# Altium schematic symbol library comp_lib_schem.SchLib: 292 symbols (part 3 of 4)
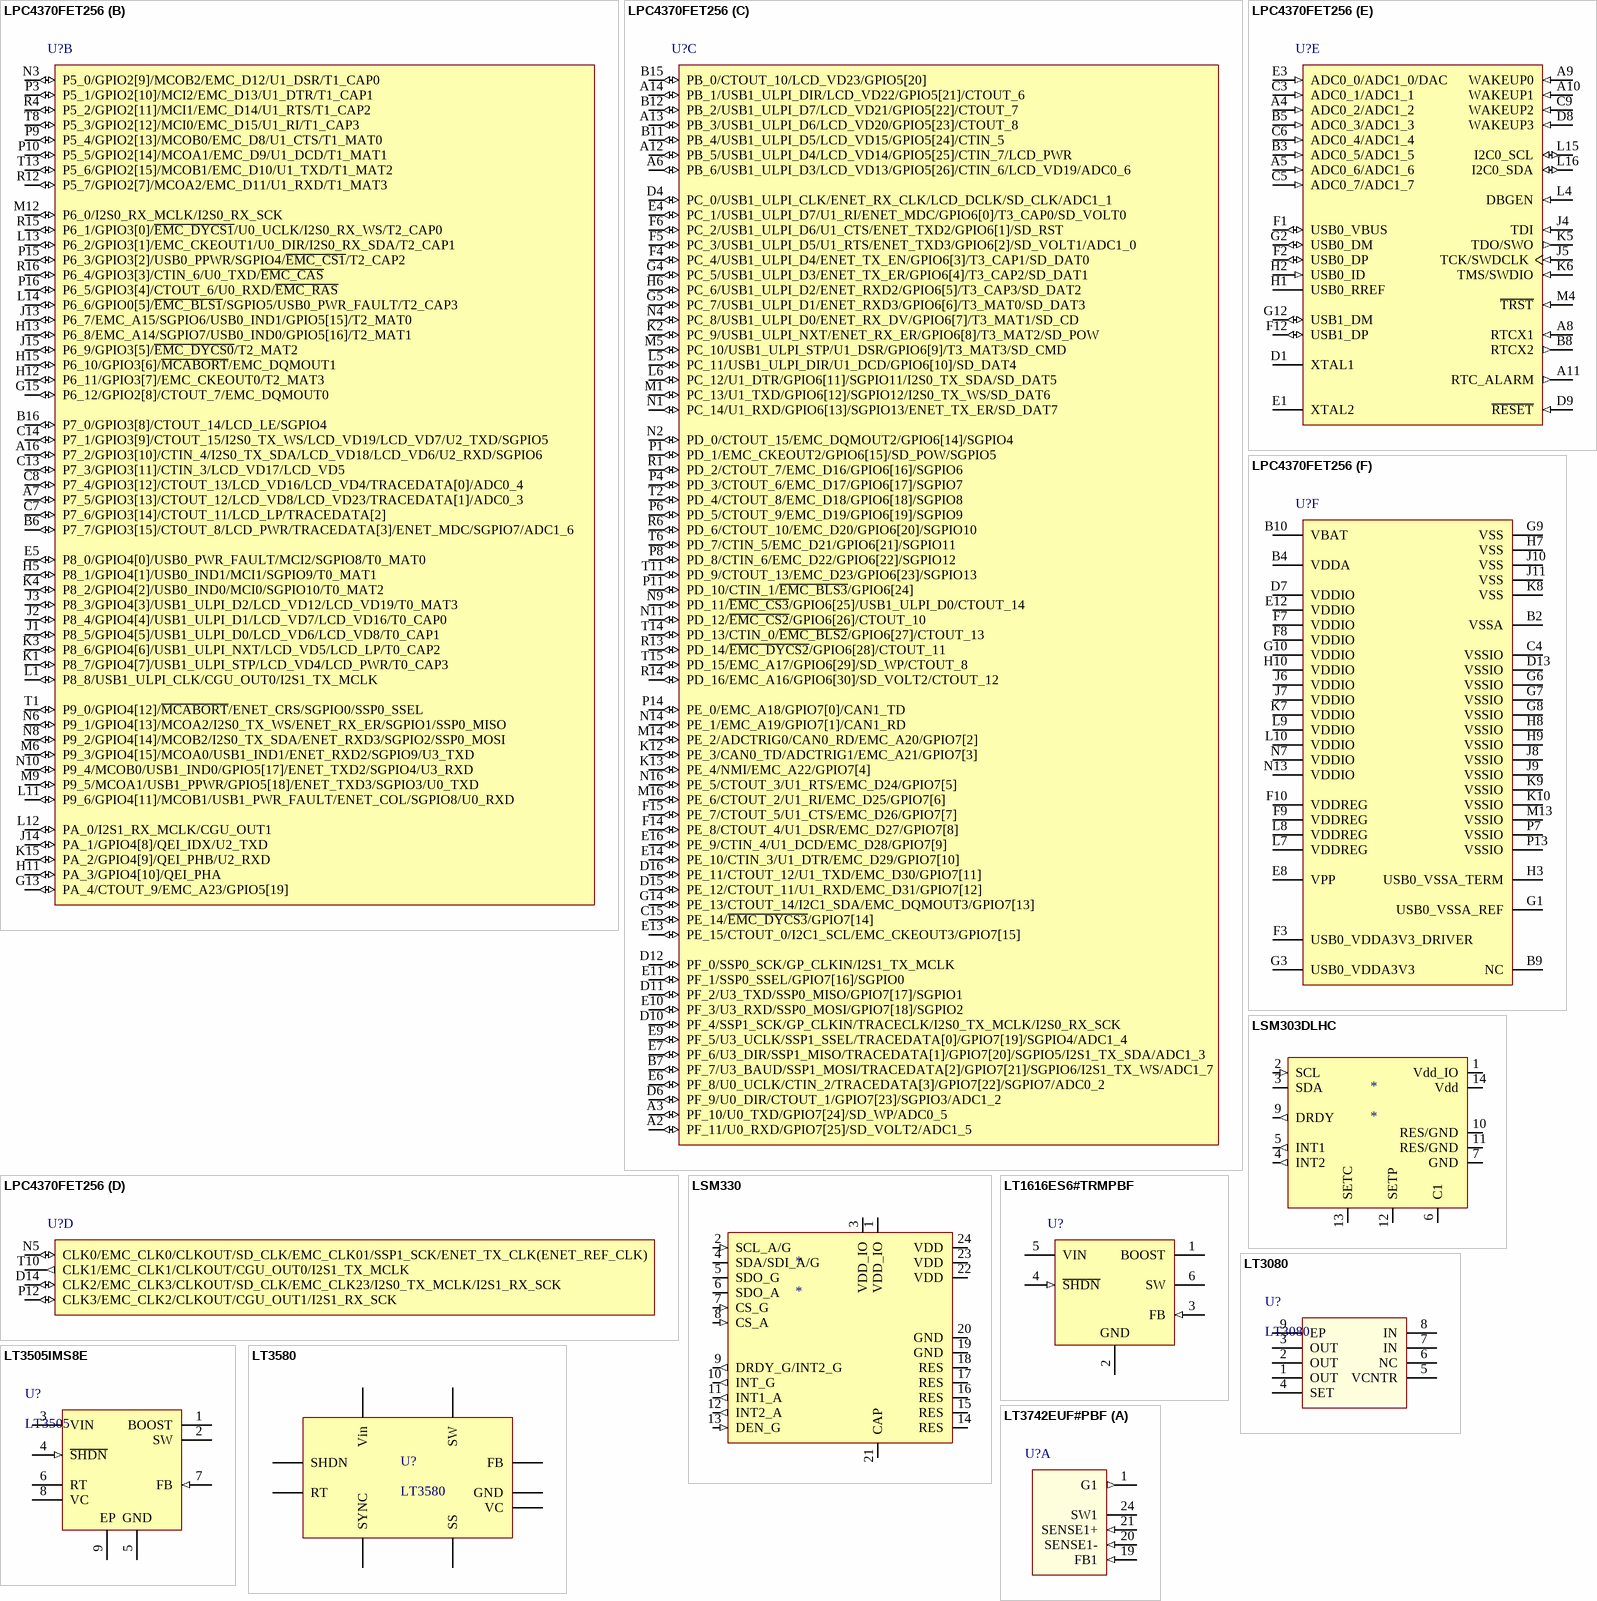
[diagram p23: symbols LPC4370FET256 to LT3742EUF#PBF]

## LT1616ES6#TRMPBF
designator U?
600 mA, 1.4 MHz Step-Down Switching Regulator, 6-pin SOT23 (S6-6), -40 to 85 degC, Pb-Free, Mini Tape and Reel; Manufacturer: Linear Technology; PartNumber: LT1616ES6#TRMPBF; Number of Outputs: 1; PackageVersion: Aug-07; PackageReference: S6-6; PackageDescription: 6-Pin Plastic SOT-23, Body 1.625 x 2.9 mm, Pitch 0.95 mm; Packing: Mini Tape and Reel; RoHS: TRUE; Mounting Technology: Surface Mount; ComponentLink1Description: Manufacturer URL; ComponentLink1URL: http://www.linear.com/; ComponentLink2Description: Datasheet; ComponentLink2URL: http://cds.linear.com/docs/en/datasheet/lt1616fs.pdf; ComponentLink3Description: Package Specification; ComponentLink3URL: http://cds.linear.com/docs/en/datasheet/175435f.pdf
footprint SOT23-6 (SOT23, 6-Leads, Body 3x1.75mm, Pitch 0.95mm, IPC Medium Density)
pins: 1 BOOST "The BOOST pin is used to provide a drive voltage, higher than the input voltage, to the internal bipolar NPN power switch.", 2 GND (power), 3 FB (in), 4 ~{SHDN} (in), 5 VIN (power), 6 SW (power) "The SW pin is the output of the internal power switch. Connect this pin to the inductor, catch diode and boost capacitor."

## LT3080
designator U?
footprint LT-MS8E-8-2060X1830TP_N (MSOP8, PMSOP8 Pitch 0.65mm, Thermal Pad)
pins: 1 OUT, 2 OUT, 3 OUT, 4 SET, 5 VCNTR, 6 NC, 7 IN, 8 IN, 9 EP

## LT3505IMS8E
designator U?, comment LT3505
footprint LT-MS8E-8-2060X1830TP_N (MSOP8, PMSOP8 Pitch 0.65mm, Thermal Pad)
pins: 1 BOOST "The BOOST pin is used to provide a drive voltage, higher than the input voltage, to the internal bipolar NPN power switch.", 2 SW (power) "The SW pin is the output of the internal power switch. Connect this pin to the inductor, catch diode and boost capacitor.", 3 VIN (power) "The VIN pin supplies current to the LT3505’s internal regulator and to the internal power switch. This pin must be locally bypassed.", 4 ~{SHDN} (in) "The S\H\D\N\ pin is used to put the LT3505 in shutdown mode. Tie to ground to shut down the LT3505. Tie to 2.3V or more for normal operation. If the shutdown feature is not used, tie this pin to the VIN pin. S\H\D\N\ also (See Datasheet)", 5 GND (power) "Tie the GND pin to a local ground plane below the LT3505 and the circuit components. Return the feedback divider to this pin.", 6 RT "The RT pin is used to program the switching frequency of the LT3505 by connecting a resistor from this pin to ground. The Applications Information section of the data sheet includes a table to determine the resistance value (See Datasheet)", 7 FB (in) "The LT3505 regulates its feedback pin to 780mV. Connect the feedback resistor divider tap to this pin.", 8 VC "The VC pin is used to compensate the LT3505 control loop by tying an external RC network from this pin to ground.", 9 EP (power) "The Exposed Pad must be soldered to the PCB and electrically connected to ground. Use a large ground plane and thermal vias to optimize thermal performance."

## LT3580
designator U?
Boost/Inverting DC/DC   Converter with 2A Switch,   Soft-Start, and Synchronization
footprint LT-MS8E-8-2060X1830TP_N (MSOP8, PMSOP8 Pitch 0.65mm, Thermal Pad)
pins: 1 FB, 2 VC, 3 Vin, 4 SW, 5 SHDN, 6 RT, 7 SS, 8 SYNC, 9 GND

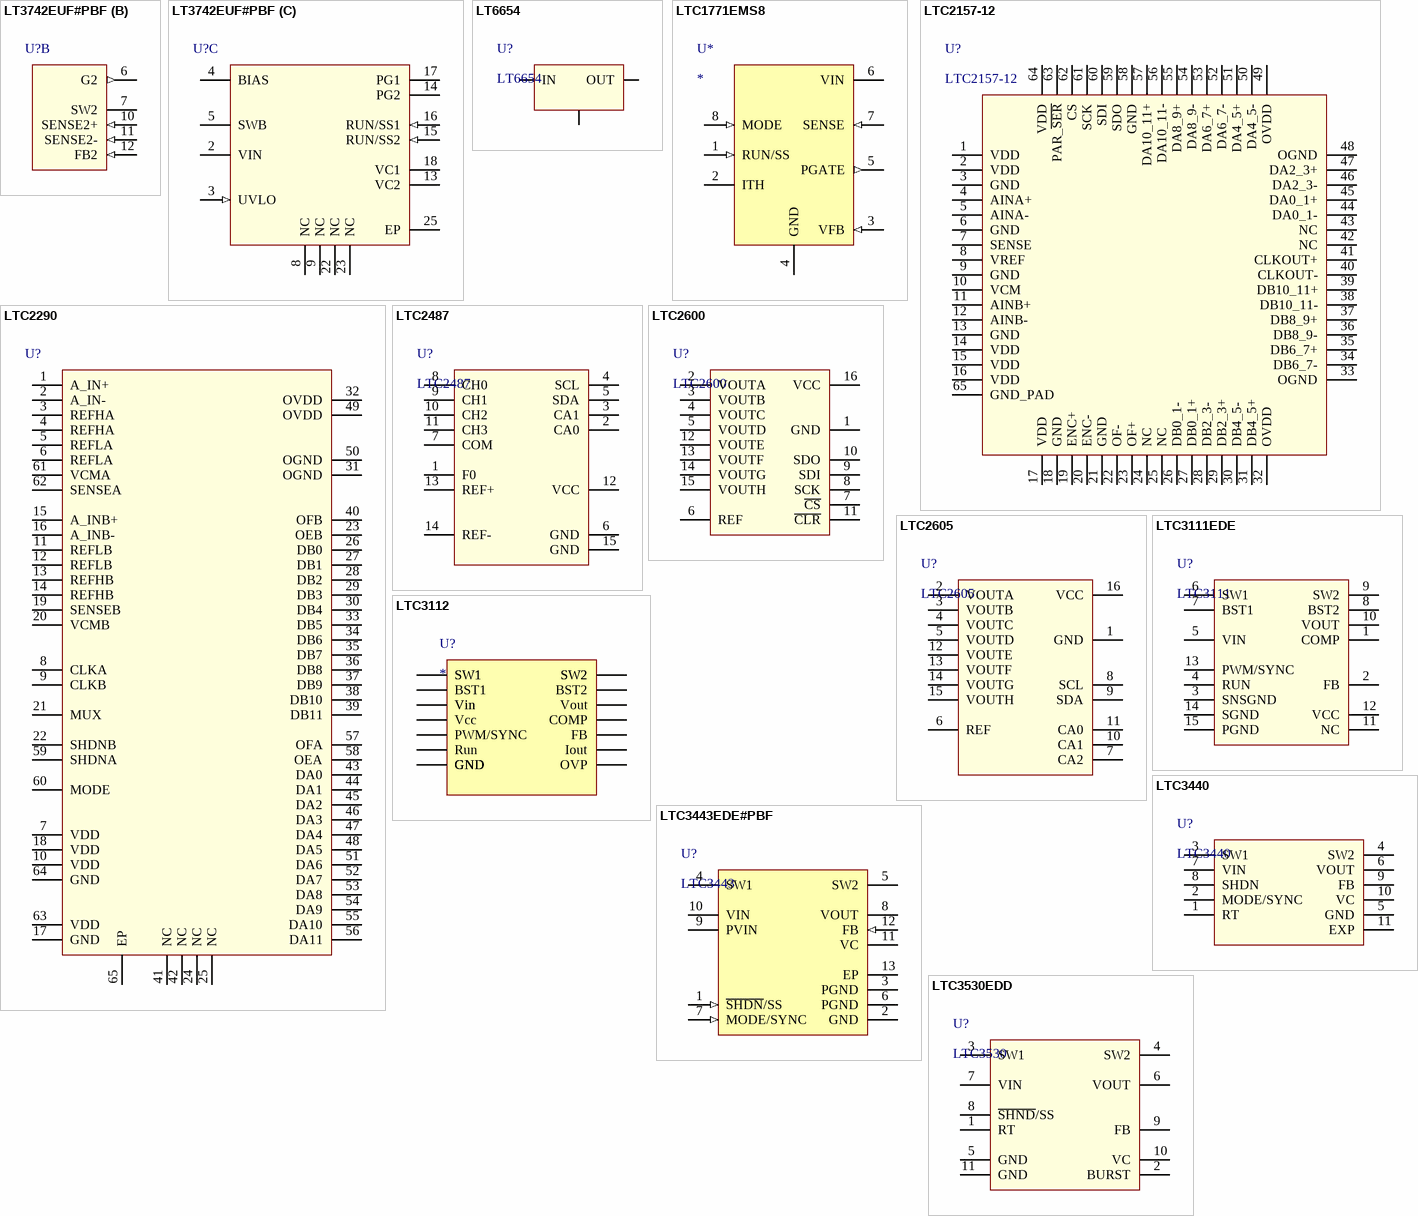
[diagram p14: symbols LT3742EUF#PBF to LTC3530EDD]

## LT3742EUF#PBF
designator U?
Dual, 2-Phase Step-Down Switching Controller, 24-pin QFN (UF24), -40 to 125 degC, Pb-Free; Manufacturer: Linear Technology; PartNumber: LT3742EUF#PBF; Number of Outputs: 2; DatasheetVersion: Rev. A; PackageVersion: Rev. B, 02/2012; PackageReference: UF24; PackageDescription: 24-Pin Plastic QFN, Body 4 x 4 mm, Pitch 0.5 mm; RoHS: TRUE; Mounting Technology: Surface Mount; Code_JEDEC: MO-220; ComponentLink1Description: Manufacturer URL; ComponentLink1URL: http://www.linear.com/; ComponentLink2Description: Datasheet; ComponentLink2URL: http://cds.linear.com/docs/en/datasheet/3742fa.pdf; ComponentLink3Description: Package Specification; ComponentLink3URL: http://cds.linear.com/docs/en/packaging/%28UF24%29%20QFN%2005-08-1697%20Rev%20B.pdf
footprint LT-UF-24 (QFN, 24-Leads, Body 4.1x4.1mm, Pitch 0.5mm, Thermal Pad 2.45x2.45mm, IPC Medium Density)
part A pins: 1 G1 (out) "Gate Drives. These pins provide high current gate drive for the external N-channel MOSFETs. These pins are the outputs of floating drivers whose voltage swings between the BIAS and SW pins.", 19 FB1 (in) "Feedback Pins. The LT3742 regulates these pins to 800mV. Connect the feedback resistors to this pin to set the output voltage for each switching regulator.", 20 SENSE1- (in) "Negative Current Sense Inputs. These pins (along with the SENSE+ pins) are used to sense the inductor current for each switching regulator.", 21 SENSE1+ (in) "Positive Current Sense Inputs. These pins (along with the SENSE- pins) are used to sense the inductor current for each switching regulator.", 24 SW1 "Switch Nodes. These pins connect to the source of the external N-channel MOSFETs and to the external inductors and diodes."
part B pins: 6 G2 (out) "Gate Drives. These pins provide high current gate drive for the external N-channel MOSFETs. These pins are the outputs of floating drivers whose voltage swings between the BIAS and SW pins.", 7 SW2 "Switch Nodes. These pins connect to the source of the external N-channel MOSFETs and to the external inductors and diodes.", 10 SENSE2+ (in) "Positive Current Sense Inputs. These pins (along with the SENSE- pins) are used to sense the inductor current for each switching regulator.", 11 SENSE2- (in) "Negative Current Sense Inputs. These pins (along with the SENSE+ pins) are used to sense the inductor current for each switching regulator.", 12 FB2 (in) "Feedback Pins. The LT3742 regulates these pins to 800mV. Connect the feedback resistors to this pin to set the output voltage for each switching regulator."
part C pins: 2 VIN (power) "Input Voltage. This pin supplies current to the internal circuitry of the LT3742. This pin must be locally bypassed with a capacitor.", 3 UVLO (in) "Undervoltage Lockout. Do not leave this pin open ; connect it to VIN if not used. A resistor divider connected to VIN is tied to this pin to program the minimum input voltage at which the LT3742 will operate. When this pin (See Datasheet)", 4 BIAS (power) "Bias for Gate Drive. This pin provides a bias voltage higher than the input voltage to drive the external N-channel MOSFETs. The voltage on this pin is regulated to VIN + 7V.", 5 SWB "Bias Regulator Switch. This is the collector of an internal NPN switch used to generate the bias voltage to provide gate drive for the external N-channel MOSFETs.", 8 NC, 9 NC, 13 VC2 "Control Voltage and Compensation Pins for Internal Error Amplifiers. Connect a series RC from these pins to ground to compensate each switching regulator loop.", 14 PG2 (oc) "Power Good. These pins are open-collector outputs of internal comparators. PG remains low until the FB pin is within 90% of the final regulation voltage. As well as indicating output regulation, the PG pins can be used to (See Datasheet)", 15 RUN/SS2 (in) "Run/Soft-Start Pins. These pins are used to shut down each controller. They also provide a soft-start function with the addition of an external capacitor. To shut down any regulator, pull the RUN/SS pin to ground with an (See Datasheet)", 16 RUN/SS1 (in) "Run/Soft-Start Pins. These pins are used to shut down each controller. They also provide a soft-start function with the addition of an external capacitor. To shut down any regulator, pull the RUN/SS pin to ground with an (See Datasheet)", 17 PG1 (oc) "Power Good. These pins are open-collector outputs of internal comparators. PG remains low until the FB pin is within 90% of the final regulation voltage. As well as indicating output regulation, the PG pins can be used to (See Datasheet)", 18 VC1 "Control Voltage and Compensation Pins for Internal Error Amplifiers. Connect a series RC from these pins to ground to compensate each switching regulator loop.", 22 NC, 23 NC, 25 EP (power) "Ground. The Exposed Pad of the package provides both electrical contact to ground and good thermal contact to the printed circuit board. The Exposed Pad must be soldered to the circuit board to ensure proper operation."

## LT6654
designator U?
Reference Voltage
footprint SOT23-6 (SOT23, 6-Leads, Body 3x1.75mm, Pitch 0.95mm, IPC Medium Density)
pins: 2 GND, 4 IN, 6 OUT

## LTC1771EMS8
designator U*
footprint LT-MS8 (SOP, 8-Leads, Body 3.1x3.1mm, Pitch 0.65mm, IPC Medium Density)
pins: 1 RUN/SS (in) "The voltage level on this pin controls shutdown/run mode (ground = shutdown, open/high = run). Connecting an external capacitor to this pin provides soft-start.", 2 ITH "Error Amplifier Compensation Point. The current comparator threshold increases with this control voltage. Nominal voltage range for this pin is 0V to 3V.", 3 VFB (in) "Feedback of Output Voltage for Comparison to Internal 1.23V Reference. An external resistive divider across the output is returned to this pin.", 4 GND (power) "Ground Pin.", 5 PGATE (out) "High Current Gate Driver for External P-Channel MOSFET Switch. Voltage swing is from ground to VIN.", 6 VIN (power) "Main Input Voltage Supply Pin.", 7 SENSE (in) "Current Sense Input for Monitoring Switch Current. Maximum switch current and Burst Mode threshold is programmed with an external resistor between SENSE and VIN.", 8 MODE (in) "Burst Mode Enable/Disable Pin. Connecting this pin to VIN (or above 2V) enables Burst Mode operation, while connecting this pin to ground disables Burst Mode operation. Do not leave floating."

## LTC2157-12
designator U?
footprint LT-QFN64
pins: 1 VDD, 2 VDD, 3 GND, 4 AINA+, 5 AINA-, 6 GND, 7 SENSE, 8 VREF, 9 GND, 10 VCM, 11 AINB+, 12 AINB-, 13 GND, 14 VDD, 15 VDD, 16 VDD, 17 VDD, 18 GND, 19 ENC+, 20 ENC-, 21 GND, 22 OF-, 23 OF+, 24 NC, 25 NC, 26 DB0_1-, 27 DB0_1+, 28 DB2_3-, 29 DB2_3+, 30 DB4_5-, 31 DB4_5+, 32 OVDD, 33 OGND, 34 DB6_7-, 35 DB6_7+, 36 DB8_9-, 37 DB8_9+, 38 DB10_11-, 39 DB10_11+, 40 CLKOUT-, 41 CLKOUT+, 42 NC, 43 NC, 44 DA0_1-, 45 DA0_1+, 46 DA2_3-, 47 DA2_3+, 48 OGND, 49 OVDD, 50 DA4_5-, 51 DA4_5+, 52 DA6_7-, 53 DA6_7+, 54 DA8_9-, 55 DA8_9+, 56 DA10_11-, 57 DA10_11+, 58 GND, 59 SDO, 60 SDI, 61 SCK, 62 CS, 63 PAR_~{SER}, 64 VDD, 65 GND_PAD

## LTC2290
designator U?  (value not drawn)
10 MSPS Dual 12-bit ADC
footprint LT-QFN64
pins: 1 A_IN+, 2 A_IN-, 3 REFHA, 4 REFHA, 5 REFLA, 6 REFLA, 7 VDD, 8 CLKA, 9 CLKB, 10 VDD, 11 REFLB, 12 REFLB, 13 REFHB, 14 REFHB, 15 A_INB+, 16 A_INB-, 17 GND, 18 VDD, 19 SENSEB, 20 VCMB, 21 MUX, 22 SHDNB, 23 OEB, 24 NC, 25 NC, 26 DB0, 27 DB1, 28 DB2, 29 DB3, 30 DB4, 31 OGND, 32 OVDD, 33 DB5, 34 DB6, 35 DB7, 36 DB8, 37 DB9, 38 DB10, 39 DB11, 40 OFB, 41 NC, 42 NC, 43 DA0, 44 DA1, 45 DA2, 46 DA3, 47 DA4, 48 DA5, 49 OVDD, 50 OGND, 51 DA6, 52 DA7, 53 DA8, 54 DA9, 55 DA10, 56 DA11, 57 OFA, 58 OEA, 59 SHDNA, 60 MODE, 61 VCMA, 62 SENSEA, 63 VDD, 64 GND, 65 EP

## LTC2487
designator U?
Quad 16-bit ADC
footprint DE_DFN14 (LT DF)
pins: 1 F0, 2 CA0, 3 CA1, 4 SCL, 5 SDA, 6 GND, 7 COM, 8 CH0, 9 CH1, 10 CH2, 11 CH3, 12 VCC, 13 REF+, 14 REF-, 15 GND

## LTC2600
designator U?
Octal 16-bit DAC
footprint GN_SSOP16 (LT GN SSPOP16)
pins: 1 GND, 2 VOUTA, 3 VOUTB, 4 VOUTC, 5 VOUTD, 6 REF, 7 ~{CS}, 8 SCK, 9 SDI, 10 SDO, 11 ~{CLR}, 12 VOUTE, 13 VOUTF, 14 VOUTG, 15 VOUTH, 16 VCC

## LTC2605
designator U?
footprint GN_SSOP16 (LT GN SSPOP16)
pins: 1 GND, 2 VOUTA, 3 VOUTB, 4 VOUTC, 5 VOUTD, 6 REF, 7 CA2, 8 SCL, 9 SDA, 10 CA1, 11 CA0, 12 VOUTE, 13 VOUTF, 14 VOUTG, 15 VOUTH, 16 VCC

## LTC3111EDE
designator U?, comment LTC3111
15V, 1.5A Synchronous  Buck-Boost DC/DC  Converter
footprint LT-DFN14
pins: 1 COMP, 2 FB, 3 SNSGND, 4 RUN, 5 VIN, 6 SW1, 7 BST1, 8 BST2, 9 SW2, 10 VOUT, 11 NC, 12 VCC, 13 PWM/SYNC, 14 SGND, 15 PGND

## LTC3112
designator U?
15V, 2.5A Synchronous  Buck-Boost DC/DC   Converter
footprint TSSOP20-exposed_pad (20-LEAD PLASTIC TSSOP with exposed GND 21 pad)
pins: 1 GND, 2 COMP, 3 FB, 4 OVP, 5 Vin, 6 Vin, 7 Run, 8 Iout, 9 Vout, 10 GND, 11 GND, 12 SW2, 13 SW2, 14 BST2, 15 SW1, 16 SW1, 17 BST1, 18 Vcc, 19 PWM/SYNC, 20 GND, 21 GND

## LTC3440
designator U?
footprint DFN10 (10-Lead Plastic DFN (3mm ×3mm))
footprint MSOP10 (MS Package  10-Lead Plastic MSOP); pin to pad 11>10
pins: 1 RT, 2 MODE/SYNC, 3 SW1, 4 SW2, 5 GND, 6 VOUT, 7 VIN, 8 SHDN, 9 FB, 10 VC, 11 EXP

## LTC3443EDE#PBF
designator U?, comment LTC3443
footprint LT-DE-UE-12 (SON, 12-Leads, Body 4x3mm, Pitch 0.5mm, Thermal Pad 3.3x1.7mm)
pins: 1 ~{SHDN}/SS (in) "Combined Soft-Start and Shutdown. Applied voltage < 0.4V shuts down the IC. Tie to >1.4V to enable the IC and >2.4V to ensure the error amp is not clamped from soft-start. An RC from the shutdown command signal to this pin (See Datasheet)", 2 GND (power) "Signal Ground for the IC.", 3 PGND (power) "Power Ground for the Internal NMOS Power Switches", 4 SW1 "Switch pin where the internal switches A and B are connected. Connect inductor from SW1 to SW2. An optional Schottky diode can be connected from this SW1 to ground. Minimize trace length to keep EMI down.", 5 SW2 "Switch pin where the internal switches C and D are connected. An optional Schottky diode can be connected from SW2 to VOUT (it is required where VOUT > 4.3V). Minimize trace length to keep EMI down.", 6 PGND (power) "Power Ground for the Internal NMOS Power Switches", 7 MODE/SYNC (in) "Burst Mode Select and Oscillator Synchronization.", 8 VOUT (power) "Output of the Synchronous Rectifier. A filter capacitor is placed from VOUT to GND. A ceramic bypass capacitor is recommended as close to the VOUT and GND pins as possible.", 9 PVIN (power) "Power VIN Supply Pin. A 10uF ceramic capacitor is recommended as close to the PVIN and PGND pins as possible", 10 VIN (power) "Input Supply Pin. Internal VCC for the IC.", 11 VC "Error Amp Output. A frequency compensation network is connected from this pin to the FB pin to compensate the loop. See the section “Compensating the Feedback Loop?for guidelines.", 12 FB (in) "Feedback Pin. Connect resistor divider tap here. The output voltage can be adjusted from 2.4V to 5.25V. The feedback reference voltage is typically 1.22V.", 13 EP (power) "Power Ground for the Internal NMOS Power Switches"

## LTC3530EDD
designator U?, comment LTC3530
Wide Input Voltage  Synchronous Buck-Boost  DC/DC Converter
footprint DFN10 (10-Lead Plastic DFN (3mm ×3mm))
pins: 1 RT, 2 BURST, 3 SW1, 4 SW2, 5 GND, 6 VOUT, 7 VIN, 8 ~{SHND}/SS, 9 FB, 10 VC, 11 GND

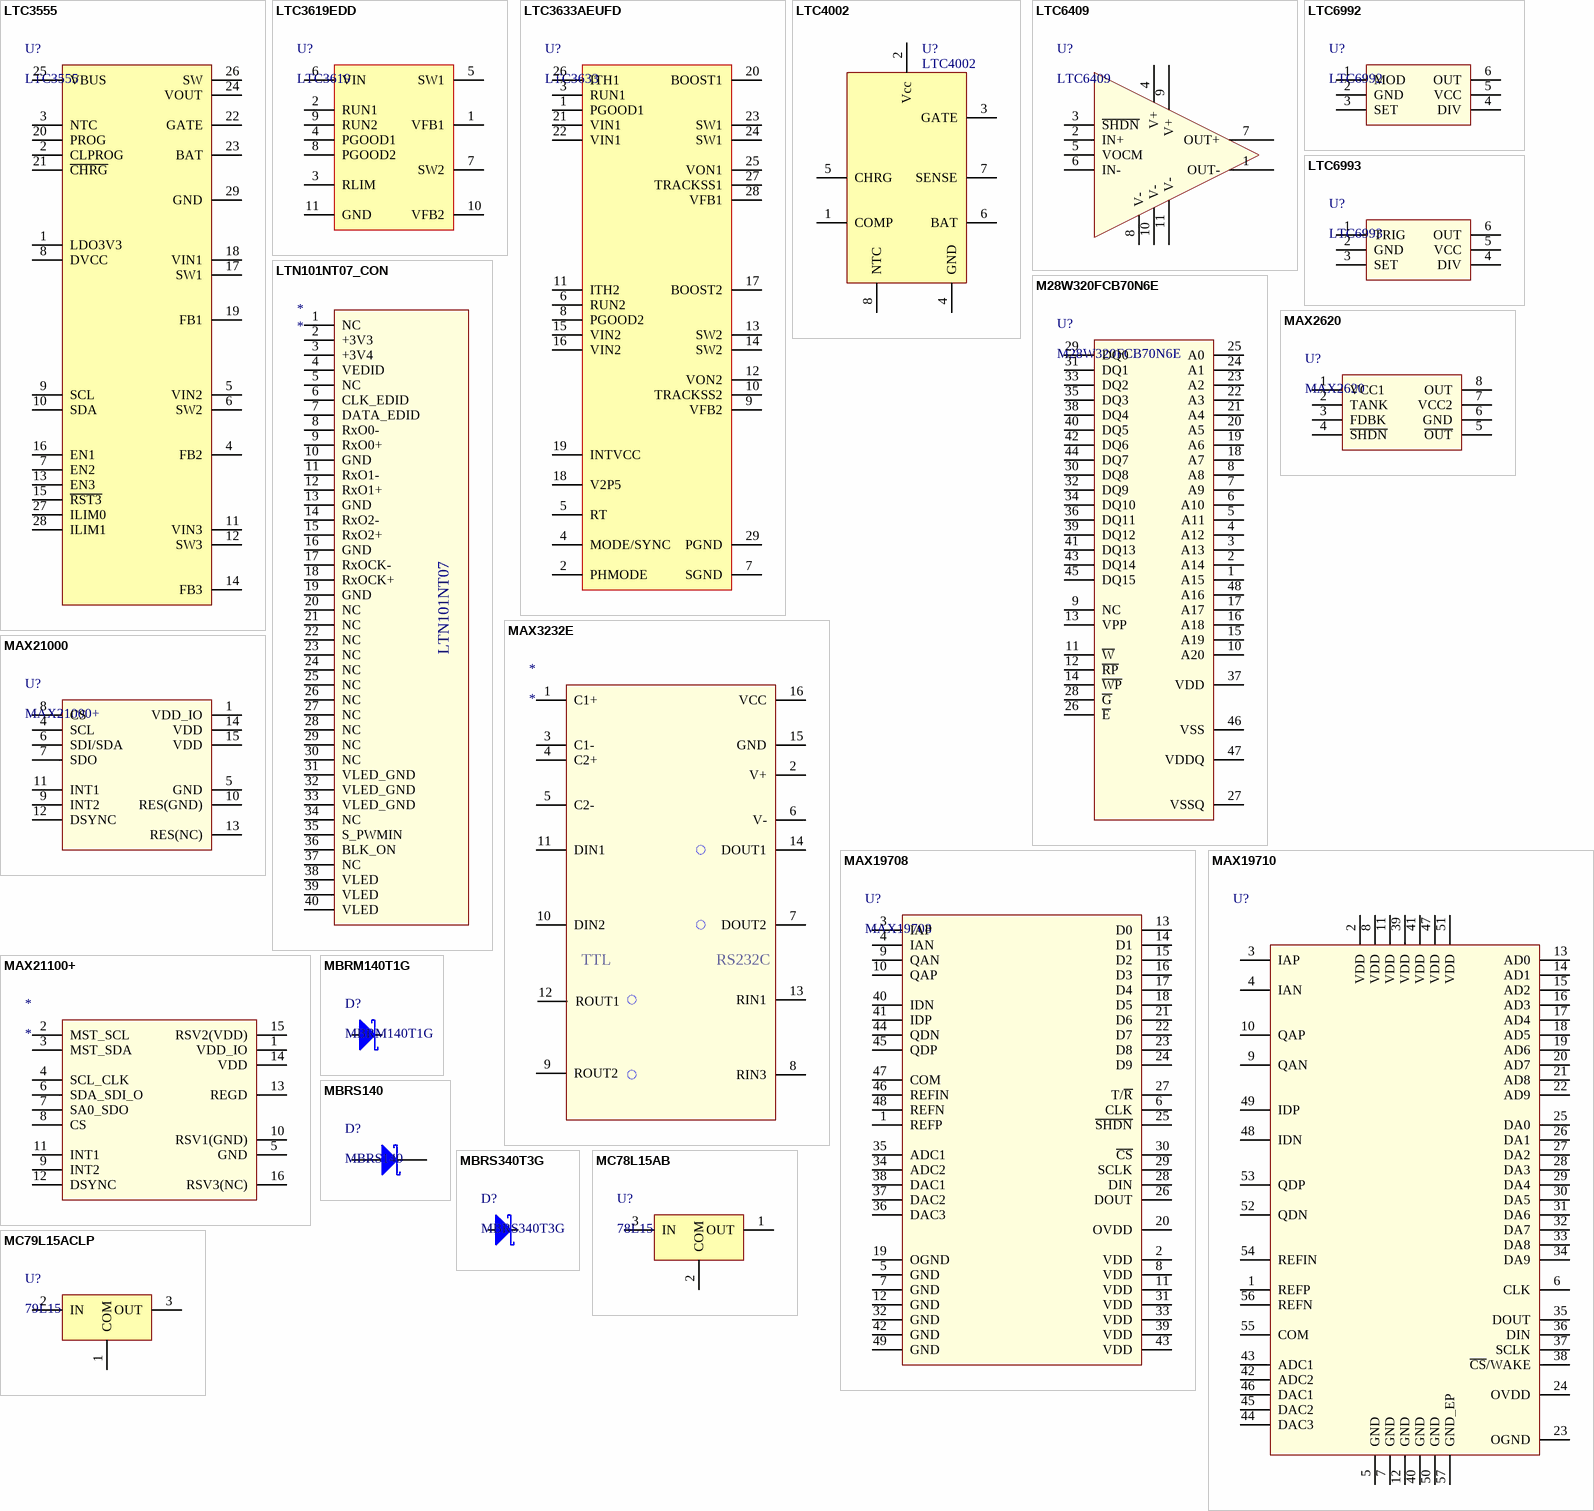
[diagram p15: symbols LTC3555 to MC79L15ACLP]

## LTC3555
designator U?
High Efficiency USB Power  Manager + Triple  Step-Down DC/DC
footprint QFN28_4x5 (Linear Technology UFD Package)
pins: 1 LDO3V3, 2 CLPROG, 3 NTC, 4 FB2, 5 VIN2, 6 SW2, 7 EN2, 8 DVCC, 9 SCL, 10 SDA, 11 VIN3, 12 SW3, 13 EN3, 14 FB3, 15 ~{RST3}, 16 EN1, 17 SW1, 18 VIN1, 19 FB1, 20 PROG, 21 ~{CHRG}, 22 GATE, 23 BAT, 24 VOUT, 25 VBUS, 26 SW, 27 ILIM0, 28 ILIM1, 29 GND

## LTC3619EDD
designator U?, comment LTC3619
400mA/800mA Synchronous  Step-Down DC/DC with  Average Input Current Limit
footprint DFN10 (10-Lead Plastic DFN (3mm ×3mm))
pins: 1 VFB1 (power), 2 RUN1 (power), 3 RLIM (power), 4 PGOOD1 (power), 5 SW1 (power), 6 VIN (power), 7 SW2 (power), 8 PGOOD2 (power), 9 RUN2 (power), 10 VFB2 (power), 11 GND (power)

## LTC3633AEUFD
designator U?, comment LTC3633
Dual Channel 3A, 15V  Monolithic Synchronous  Step-Down Regulator
footprint QFN28_4x5 (Linear Technology UFD Package)
pins: 1 PGOOD1 (power), 2 PHMODE (power), 3 RUN1 (power), 4 MODE/SYNC (power), 5 RT (power), 6 RUN2 (power), 7 SGND (power), 8 PGOOD2 (power), 9 VFB2 (power), 10 TRACKSS2 (power), 11 ITH2 (power), 12 VON2 (power), 13 SW2 (power), 14 SW2 (power), 15 VIN2 (power), 16 VIN2 (power), 17 BOOST2 (power), 18 V2P5 (power), 19 INTVCC (power), 20 BOOST1 (power), 21 VIN1 (power), 22 VIN1 (power), 23 SW1 (power), 24 SW1 (power), 25 VON1 (power), 26 ITH1 (power), 27 TRACKSS1 (power), 28 VFB1 (power), 29 PGND (power)

## LTC4002
designator U?
Standalone Li-Ion  Switch Mode Battery Charger
footprint SOIC8
pins: 1 COMP, 2 Vcc, 3 GATE, 4 GND, 5 CHRG, 6 BAT, 7 SENSE, 8 NTC

## LTC6409
designator U?
10GHz GBW, Differential Amplifier/ADC Driver
footprint UDB10 (10-Lead Plastic QFN (3mm ×2mm))
pins: 1 OUT-, 2 IN+, 3 ~{SHDN}, 4 V+, 5 VOCM, 6 IN-, 7 OUT+, 8 V-, 9 V+, 10 V-, 11 V-

## LTC6992
designator U?
Voltage-Controlled Pulse   Width Modulator
footprint SOT23-6 (SOT23, 6-Leads, Body 3x1.75mm, Pitch 0.95mm, IPC Medium Density)
pins: 1 MOD, 2 GND, 3 SET, 4 DIV, 5 VCC, 6 OUT

## LTC6993
designator U?
Monostable  Pulse Generator(One Shot)
footprint SOT23-6 (SOT23, 6-Leads, Body 3x1.75mm, Pitch 0.95mm, IPC Medium Density)
pins: 1 TRIG, 2 GND, 3 SET, 4 DIV, 5 VCC, 6 OUT

## LTN101NT07_CON
designator *
footprint 5-2069716-3 (TE Conectivity LCD IPEX cop. connector)
footprint T_HIROSE_DF13A-40DP-1.25V(55)
pins: 1 NC, 2 +3V3, 3 +3V4, 4 VEDID, 5 NC, 6 CLK_EDID, 7 DATA_EDID, 8 RxO0-, 9 RxO0+, 10 GND, 11 RxO1-, 12 RxO1+, 13 GND, 14 RxO2-, 15 RxO2+, 16 GND, 17 RxOCK-, 18 RxOCK+, 19 GND, 20 NC, 21 NC, 22 NC, 23 NC, 24 NC, 25 NC, 26 NC, 27 NC, 28 NC, 29 NC, 30 NC, 31 VLED_GND, 32 VLED_GND, 33 VLED_GND, 34 NC, 35 S_PWMIN, 36 BLK_ON, 37 NC, 38 VLED, 39 VLED, 40 VLED
text: LTN101NT07

## M28W320FCB70N6E
designator U?
2MB flash boot memory
footprint TSOP48_FLASH (Flash footprint)
pins: 1 A15, 2 A14, 3 A13, 4 A12, 5 A11, 6 A10, 7 A9, 8 A8, 9 NC, 10 A20, 11 ~{W}, 12 ~{RP}, 13 VPP, 14 ~{WP}, 15 A19, 16 A18, 17 A17, 18 A7, 19 A6, 20 A5, 21 A4, 22 A3, 23 A2, 24 A1, 25 A0, 26 ~{E}, 27 VSSQ, 28 ~{G}, 29 DQ0, 30 DQ8, 31 DQ1, 32 DQ9, 33 DQ2, 34 DQ10, 35 DQ3, 36 DQ11, 37 VDD, 38 DQ4, 39 DQ12, 40 DQ5, 41 DQ13, 42 DQ6, 43 DQ14, 44 DQ7, 45 DQ15, 46 VSS, 47 VDDQ, 48 A16

## MAX2620
designator U?
footprint uMAX-8L (Maxim Dallas uMAX / uSOP 8L)
pins: 1 VCC1, 2 TANK, 3 FDBK, 4 ~{SHDN}, 5 ~{OUT}, 6 GND, 7 VCC2, 8 OUT

## MAX3232E
designator *
footprint SOIC16_TI (SOIC, 16-Leads, Body 9,90x3,90mm, Pitch 1,27mm, IPC Medium Density)
pins: 1 C1+, 2 V+, 3 C1-, 4 C2+, 5 C2-, 6 V-, 7 DOUT2, 8 RIN3, 9 ROUT2, 10 DIN2, 11 DIN1, 12 ROUT1, 13 RIN1, 14 DOUT1, 15 GND, 16 VCC
text: TTL; RS232C

## MAX19708
designator U?
10-Bit, 11Msps, Ultra-Low-Power  Analog Front-End
footprint QFN48L (7x7 Maxim Dallas)
pins: 1 REFP, 2 VDD, 3 IAP, 4 IAN, 5 GND, 6 CLK, 7 GND, 8 VDD, 9 QAN, 10 QAP, 11 VDD, 12 GND, 13 D0, 14 D1, 15 D2, 16 D3, 17 D4, 18 D5, 19 OGND, 20 OVDD, 21 D6, 22 D7, 23 D8, 24 D9, 25 ~{SHDN}, 26 DOUT, 27 T/~{R}, 28 DIN, 29 SCLK, 30 ~{CS}, 31 VDD, 32 GND, 33 VDD, 34 ADC2, 35 ADC1, 36 DAC3, 37 DAC2, 38 DAC1, 39 VDD, 40 IDN, 41 IDP, 42 GND, 43 VDD, 44 QDN, 45 QDP, 46 REFIN, 47 COM, 48 REFN, 49 GND

## MAX19710
designator U?  (value not drawn)
10-Bit, 7.5Msps, Full-Duplex  Analog Front-End
footprint QFN56L
pins: 1 REFP, 2 VDD, 3 IAP, 4 IAN, 5 GND, 6 CLK, 7 GND, 8 VDD, 9 QAN, 10 QAP, 11 VDD, 12 GND, 13 AD0, 14 AD1, 15 AD2, 16 AD3, 17 AD4, 18 AD5, 19 AD6, 20 AD7, 21 AD8, 22 AD9, 23 OGND, 24 OVDD, 25 DA0, 26 DA1, 27 DA2, 28 DA3, 29 DA4, 30 DA5, 31 DA6, 32 DA7, 33 DA8, 34 DA9, 35 DOUT, 36 DIN, 37 SCLK, 38 ~{CS}/WAKE, 39 VDD, 40 GND, 41 VDD, 42 ADC2, 43 ADC1, 44 DAC3, 45 DAC2, 46 DAC1, 47 VDD, 48 IDN, 49 IDP, 50 GND, 51 VDD, 52 QDN, 53 QDP, 54 REFIN, 55 COM, 56 REFN, 57 GND_EP

## MAX21000
designator U?, comment MAX21000+
footprint LGA16_MD (Maxim Dallas MEMS)
pins: 1 VDD_IO, 4 SCL, 5 GND, 6 SDI/SDA, 7 SDO, 8 CS, 9 INT2, 10 RES(GND), 11 INT1, 12 DSYNC, 13 RES(NC), 14 VDD, 15 VDD

## MAX21100+
designator *
footprint LGA16_MD (Maxim Dallas MEMS)
pins: 1 VDD_IO, 2 MST_SCL, 3 MST_SDA, 4 SCL_CLK, 5 GND, 6 SDA_SDI_O, 7 SA0_SDO, 8 CS, 9 INT2, 10 RSV1(GND), 11 INT1, 12 DSYNC, 13 REGD, 14 VDD, 15 RSV2(VDD), 16 RSV3(NC)

## MBRM140T1G
designator D?
footprint POWERMITE; pin to pad 1>A 2>K
pins: 1 A, 2 K

## MBRS140
designator D?
footprint D_SMB (DO-214-AA/SMB; 2 C-Bend Leads; Body 5.3 x 3.6 mm, inc. leads (LxW))
pins: 1 A, 2 K

## MBRS340T3G
designator D?
footprint D_SMC (DO-214-AB/SMC; 2 C-Bend Leads; Body 7.9 x 5.9 mm, inc. leads (LxW))
pins: 1 A, 2 K

## MC78L15AB
designator U?, comment 78L15
+15V Volatage Raegulator
footprint TO-92
footprint TO_92_2
pins: 1 OUT, 2 COM, 3 IN

## MC79L15ACLP
designator U?, comment 79L15
-15V Voltage Regulator
footprint TO-92
footprint TO_92_2
pins: 1 COM, 2 IN, 3 OUT

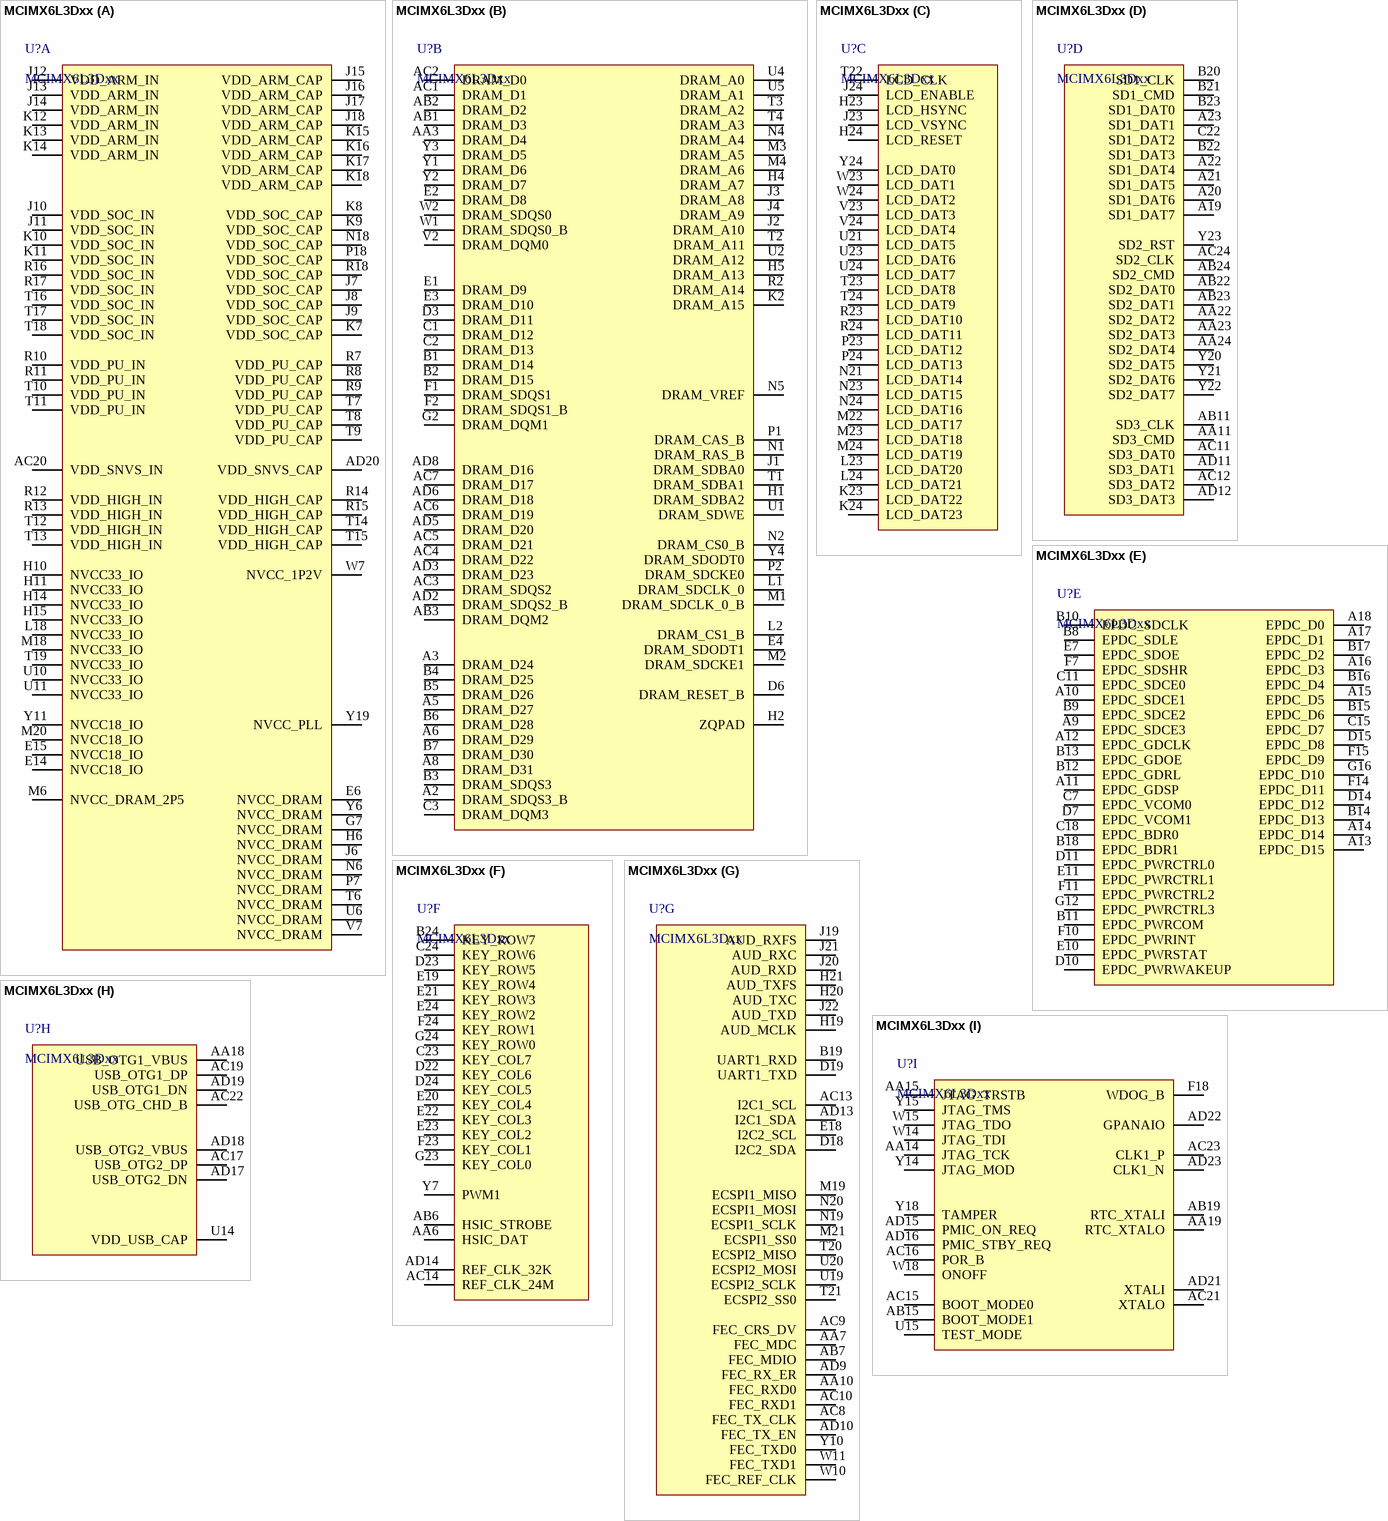
[diagram p16: symbol MCIMX6L3Dxx]

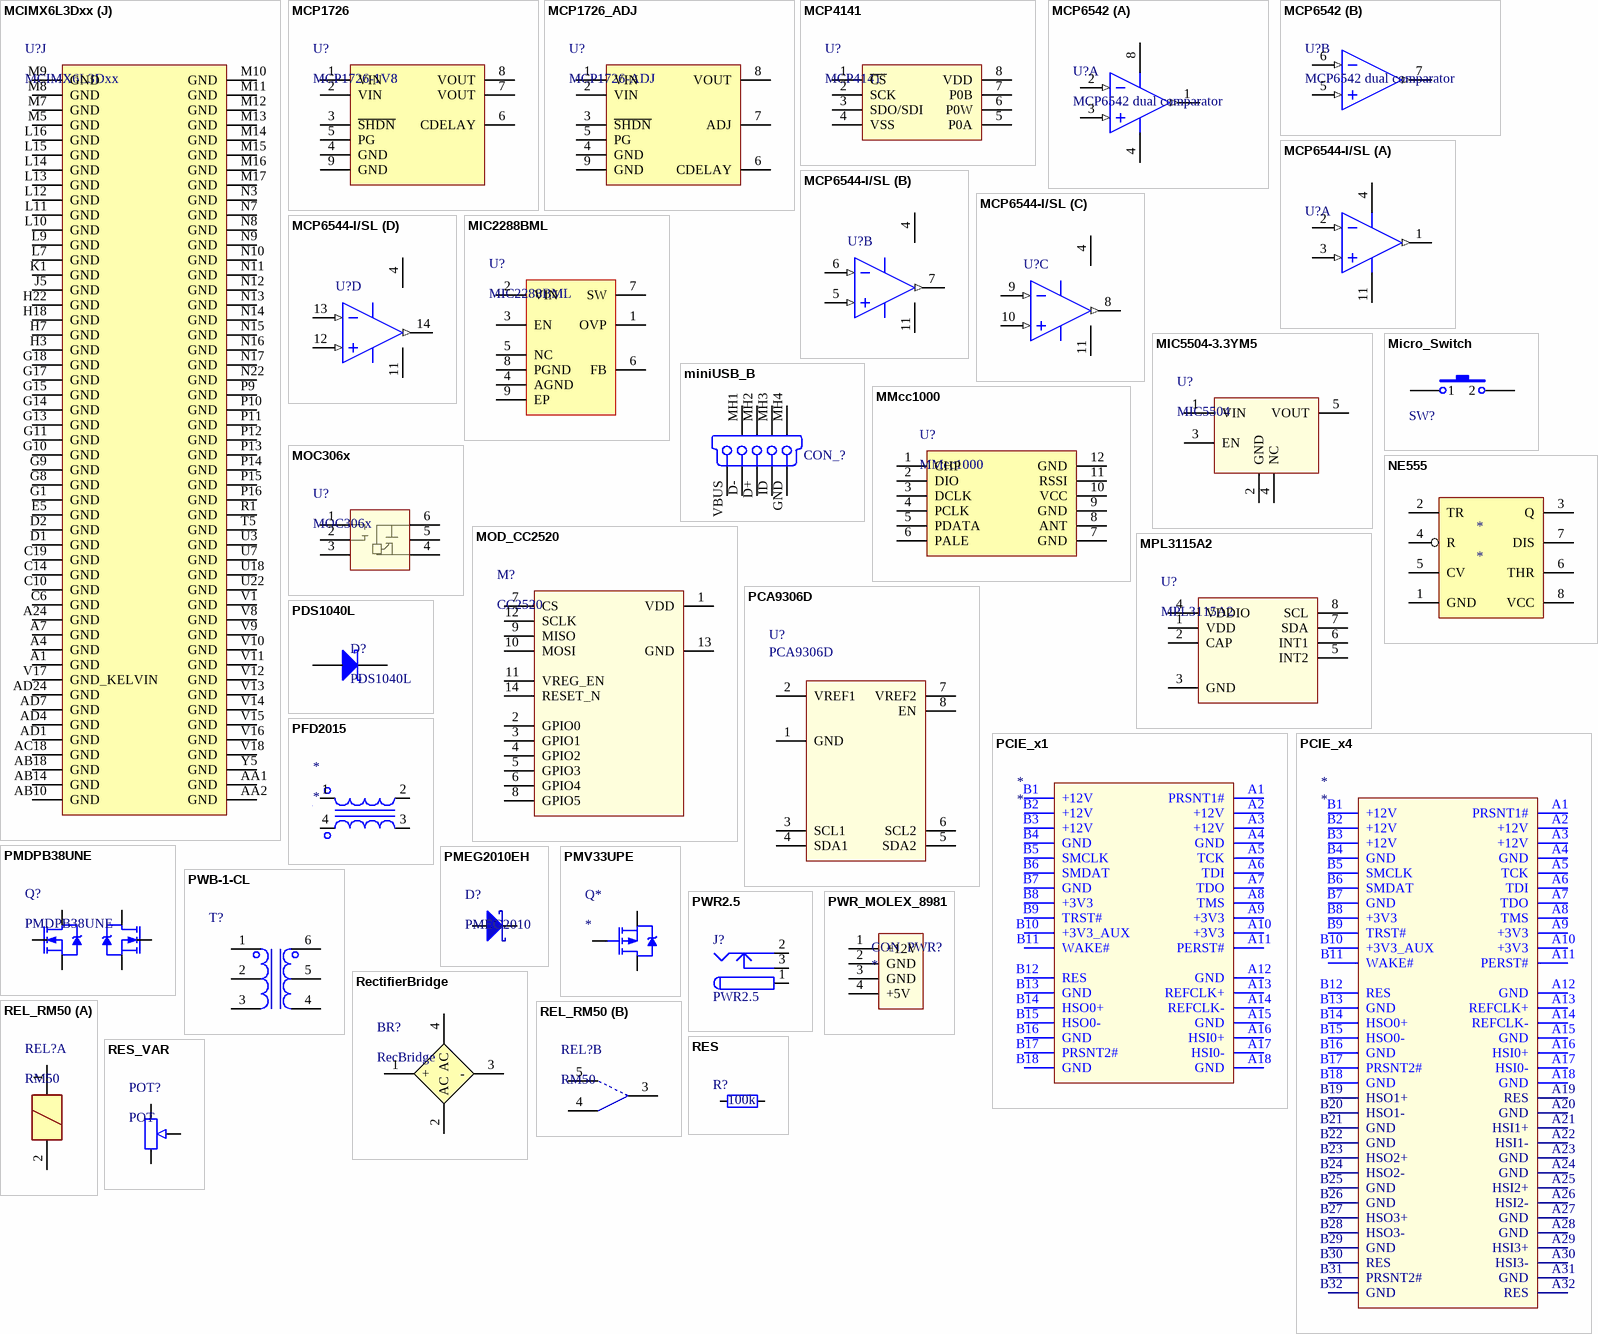
[diagram p17: symbols MCIMX6L3Dxx to RES_VAR]

## MCIMX6L3Dxx
designator U?
i.MX6 Solo Lite MCU 1GHz
footprint BGA13x13x0_5 (imx6 solo lite)
part A pins: AC20 VDD_SNVS_IN, AD20 VDD_SNVS_CAP, E6 NVCC_DRAM, E14 NVCC18_IO, E15 NVCC18_IO, G7 NVCC_DRAM, H6 NVCC_DRAM, H10 NVCC33_IO, H11 NVCC33_IO, H14 NVCC33_IO, H15 NVCC33_IO, J6 NVCC_DRAM, J7 VDD_SOC_CAP, J8 VDD_SOC_CAP, J9 VDD_SOC_CAP, J10 VDD_SOC_IN, J11 VDD_SOC_IN, J12 VDD_ARM_IN, J13 VDD_ARM_IN, J14 VDD_ARM_IN, J15 VDD_ARM_CAP, J16 VDD_ARM_CAP, J17 VDD_ARM_CAP, J18 VDD_ARM_CAP, K7 VDD_SOC_CAP, K8 VDD_SOC_CAP, K9 VDD_SOC_CAP, K10 VDD_SOC_IN, K11 VDD_SOC_IN, K12 VDD_ARM_IN, K13 VDD_ARM_IN, K14 VDD_ARM_IN, K15 VDD_ARM_CAP, K16 VDD_ARM_CAP, K17 VDD_ARM_CAP, K18 VDD_ARM_CAP, L18 NVCC33_IO, M6 NVCC_DRAM_2P5, M18 NVCC33_IO, M20 NVCC18_IO, N6 NVCC_DRAM, N18 VDD_SOC_CAP, P7 NVCC_DRAM, P18 VDD_SOC_CAP, R7 VDD_PU_CAP, R8 VDD_PU_CAP, R9 VDD_PU_CAP, R10 VDD_PU_IN, R11 VDD_PU_IN, R12 VDD_HIGH_IN, R13 VDD_HIGH_IN, R14 VDD_HIGH_CAP, R15 VDD_HIGH_CAP, R16 VDD_SOC_IN, R17 VDD_SOC_IN, R18 VDD_SOC_CAP, T6 NVCC_DRAM, T7 VDD_PU_CAP, T8 VDD_PU_CAP, T9 VDD_PU_CAP, T10 VDD_PU_IN, T11 VDD_PU_IN, T12 VDD_HIGH_IN, T13 VDD_HIGH_IN, T14 VDD_HIGH_CAP, T15 VDD_HIGH_CAP, T16 VDD_SOC_IN, T17 VDD_SOC_IN, T18 VDD_SOC_IN, T19 NVCC33_IO, U6 NVCC_DRAM, U10 NVCC33_IO, U11 NVCC33_IO, V7 NVCC_DRAM, W7 NVCC_1P2V, Y6 NVCC_DRAM, Y11 NVCC18_IO, Y19 NVCC_PLL
part B pins: A2 DRAM_SDQS3_B, A3 DRAM_D24, A5 DRAM_D27, A6 DRAM_D29, A8 DRAM_D31, AA3 DRAM_D4, AB1 DRAM_D3, AB2 DRAM_D2, AB3 DRAM_DQM2, AC1 DRAM_D1, AC2 DRAM_D0, AC3 DRAM_SDQS2, AC4 DRAM_D22, AC5 DRAM_D21, AC6 DRAM_D19, AC7 DRAM_D17, AD2 DRAM_SDQS2_B, AD3 DRAM_D23, AD5 DRAM_D20, AD6 DRAM_D18, AD8 DRAM_D16, B1 DRAM_D14, B2 DRAM_D15, B3 DRAM_SDQS3, B4 DRAM_D25, B5 DRAM_D26, B6 DRAM_D28, B7 DRAM_D30, C1 DRAM_D12, C2 DRAM_D13, C3 DRAM_DQM3, D3 DRAM_D11, D6 DRAM_RESET_B, E1 DRAM_D9, E2 DRAM_D8, E3 DRAM_D10, E4 DRAM_SDODT1, F1 DRAM_SDQS1, F2 DRAM_SDQS1_B, G2 DRAM_DQM1, H1 DRAM_SDBA2, H2 ZQPAD, H4 DRAM_A7, H5 DRAM_A13, J1 DRAM_SDBA0, J2 DRAM_A10, J3 DRAM_A8, J4 DRAM_A9, K2 DRAM_A15, L1 DRAM_SDCLK_0, L2 DRAM_CS1_B, M1 DRAM_SDCLK_0_B, M2 DRAM_SDCKE1, M3 DRAM_A5, M4 DRAM_A6, N1 DRAM_RAS_B, N2 DRAM_CS0_B, N4 DRAM_A4, N5 DRAM_VREF, P1 DRAM_CAS_B, P2 DRAM_SDCKE0, R2 DRAM_A14, T1 DRAM_SDBA1, T2 DRAM_A11, T3 DRAM_A2, T4 DRAM_A3, U1 DRAM_SDWE, U2 DRAM_A12, U4 DRAM_A0, U5 DRAM_A1, V2 DRAM_DQM0, W1 DRAM_SDQS0_B, W2 DRAM_SDQS0, Y1 DRAM_D6, Y2 DRAM_D7, Y3 DRAM_D5, Y4 DRAM_SDODT0
part C pins: H23 LCD_HSYNC, H24 LCD_RESET, J23 LCD_VSYNC, J24 LCD_ENABLE, K23 LCD_DAT22, K24 LCD_DAT23, L23 LCD_DAT20, L24 LCD_DAT21, M22 LCD_DAT17, M23 LCD_DAT18, M24 LCD_DAT19, N21 LCD_DAT14, N23 LCD_DAT15, N24 LCD_DAT16, P23 LCD_DAT12, P24 LCD_DAT13, R23 LCD_DAT10, R24 LCD_DAT11, T22 LCD_CLK, T23 LCD_DAT8, T24 LCD_DAT9, U21 LCD_DAT5, U23 LCD_DAT6, U24 LCD_DAT7, V23 LCD_DAT3, V24 LCD_DAT4, W23 LCD_DAT1, W24 LCD_DAT2, Y24 LCD_DAT0
part D pins: A19 SD1_DAT7, A20 SD1_DAT6, A21 SD1_DAT5, A22 SD1_DAT4, A23 SD1_DAT1, AA11 SD3_CMD, AA22 SD2_DAT2, AA23 SD2_DAT3, AA24 SD2_DAT4, AB11 SD3_CLK, AB22 SD2_DAT0, AB23 SD2_DAT1, AB24 SD2_CMD, AC11 SD3_DAT0, AC12 SD3_DAT2, AC24 SD2_CLK, AD11 SD3_DAT1, AD12 SD3_DAT3, B20 SD1_CLK, B21 SD1_CMD, B22 SD1_DAT3, B23 SD1_DAT0, C22 SD1_DAT2, Y20 SD2_DAT5, Y21 SD2_DAT6, Y22 SD2_DAT7, Y23 SD2_RST
part E pins: A9 EPDC_SDCE3, A10 EPDC_SDCE1, A11 EPDC_GDSP, A12 EPDC_GDCLK, A13 EPDC_D15, A14 EPDC_D14, A15 EPDC_D5, A16 EPDC_D3, A17 EPDC_D1, A18 EPDC_D0, B8 EPDC_SDLE, B9 EPDC_SDCE2, B10 EPDC_SDCLK, B11 EPDC_PWRCOM, B12 EPDC_GDRL, B13 EPDC_GDOE, B14 EPDC_D13, B15 EPDC_D6, B16 EPDC_D4, B17 EPDC_D2, B18 EPDC_BDR1, C7 EPDC_VCOM0, C11 EPDC_SDCE0, C15 EPDC_D7, C18 EPDC_BDR0, D7 EPDC_VCOM1, D10 EPDC_PWRWAKEUP, D11 EPDC_PWRCTRL0, D14 EPDC_D12, D15 EPDC_D8, E7 EPDC_SDOE, E10 EPDC_PWRSTAT, E11 EPDC_PWRCTRL1, F7 EPDC_SDSHR, F10 EPDC_PWRINT, F11 EPDC_PWRCTRL2, F14 EPDC_D11, F15 EPDC_D9, G12 EPDC_PWRCTRL3, G16 EPDC_D10
part F pins: AA6 HSIC_DAT, AB6 HSIC_STROBE, AC14 REF_CLK_24M, AD14 REF_CLK_32K, B24 KEY_ROW7, C23 KEY_COL7, C24 KEY_ROW6, D22 KEY_COL6, D23 KEY_ROW5, D24 KEY_COL5, E19 KEY_ROW4, E20 KEY_COL4, E21 KEY_ROW3, E22 KEY_COL3, E23 KEY_COL2, E24 KEY_ROW2, F23 KEY_COL1, F24 KEY_ROW1, G23 KEY_COL0, G24 KEY_ROW0, Y7 PWM1
part G pins: AA7 FEC_MDC, AA10 FEC_RXD0, AB7 FEC_MDIO, AC8 FEC_TX_CLK, AC9 FEC_CRS_DV, AC10 FEC_RXD1, AC13 I2C1_SCL, AD9 FEC_RX_ER, AD10 FEC_TX_EN, AD13 I2C1_SDA, B19 UART1_RXD, D18 I2C2_SDA, D19 UART1_TXD, E18 I2C2_SCL, H19 AUD_MCLK, H20 AUD_TXC, H21 AUD_TXFS, J19 AUD_RXFS, J20 AUD_RXD, J21 AUD_RXC, J22 AUD_TXD, M19 ECSPI1_MISO, M21 ECSPI1_SS0, N19 ECSPI1_SCLK, N20 ECSPI1_MOSI, T20 ECSPI2_MISO, T21 ECSPI2_SS0, U19 ECSPI2_SCLK, U20 ECSPI2_MOSI, W10 FEC_REF_CLK, W11 FEC_TXD1, Y10 FEC_TXD0
part H pins: AA18 USB_OTG1_VBUS, AC17 USB_OTG2_DP, AC19 USB_OTG1_DP, AC22 USB_OTG_CHD_B, AD17 USB_OTG2_DN, AD18 USB_OTG2_VBUS, AD19 USB_OTG1_DN, U14 VDD_USB_CAP
part I pins: AA14 JTAG_TCK, AA15 JTAG_TRSTB, AA19 RTC_XTALO, AB15 BOOT_MODE1, AB19 RTC_XTALI, AC15 BOOT_MODE0, AC16 POR_B, AC21 XTALO, AC23 CLK1_P, AD15 PMIC_ON_REQ, AD16 PMIC_STBY_REQ, AD21 XTALI, AD22 GPANAIO, AD23 CLK1_N, F18 WDOG_B, U15 TEST_MODE, W14 JTAG_TDI, W15 JTAG_TDO, W18 ONOFF, Y14 JTAG_MOD, Y15 JTAG_TMS, Y18 TAMPER
part J pins: A1 GND, A4 GND, A7 GND, A24 GND, AA1 GND, AA2 GND, AB10 GND, AB14 GND, AB18 GND, AC18 GND, AD1 GND, AD4 GND, AD7 GND, AD24 GND, C6 GND, C10 GND, C14 GND, C19 GND, D1 GND, D2 GND, E5 GND, G1 GND, G8 GND, G9 GND, G10 GND, G11 GND, G13 GND, G14 GND, G15 GND, G17 GND, G18 GND, H3 GND, H7 GND, H18 GND, H22 GND, J5 GND, K1 GND, L7 GND, L9 GND, L10 GND, L11 GND, L12 GND, L13 GND, L14 GND, L15 GND, L16 GND, M5 GND, M7 GND, M8 GND, M9 GND, M10 GND, M11 GND, M12 GND, M13 GND, M14 GND, M15 GND, M16 GND, M17 GND, N3 GND, N7 GND, N8 GND, N9 GND, N10 GND, N11 GND, N12 GND, N13 GND, N14 GND, N15 GND, N16 GND, N17 GND, N22 GND, P9 GND, P10 GND, P11 GND, P12 GND, P13 GND, P14 GND, P15 GND, P16 GND, R1 GND, T5 GND, U3 GND, U7 GND, U18 GND, U22 GND, V1 GND, V8 GND, V9 GND, V10 GND, V11 GND, V12 GND, V13 GND, V14 GND, V15 GND, V16 GND, V17 GND_KELVIN, V18 GND, Y5 GND

## MCP1726
designator U?, comment MCP1726-1V8
1A, Low Voltage, Low Quiescent Current LDO  Regulator; Value: 1V8
footprint DFN8 (DFN, 8-Leads, Body 3,00x3,00mm, Pitch 0,65mm, Thermal Pad 1,60x2,40mm, IPC Medium Density)
pins: 1 VIN, 2 VIN, 3 ~{SHDN}, 4 GND, 5 PG, 6 CDELAY, 7 VOUT, 8 VOUT, 9 GND

## MCP1726_ADJ
designator U?, comment MCP1726-ADJ
1A, Low Voltage, Low Quiescent Current LDO  Regulator; Value: 1V8
footprint DFN8 (DFN, 8-Leads, Body 3,00x3,00mm, Pitch 0,65mm, Thermal Pad 1,60x2,40mm, IPC Medium Density)
pins: 1 VIN, 2 VIN, 3 ~{SHDN}, 4 GND, 5 PG, 6 CDELAY, 7 ADJ, 8 VOUT, 9 GND

## MCP4141
designator U?
7/8-Bit Single/Dual SPI Digital POT with  Non-Volatile Memory
footprint SOIC8
pins: 1 ~{CS}, 2 SCK, 3 SDO/SDI, 4 VSS, 5 P0A, 6 P0W, 7 P0B, 8 VDD

## MCP6542
designator U?, comment MCP6542 dual comparator
Push-Pull Output Sub-Microamp Comparators
footprint SOIC8
part A pins: 1 OUTA (out), 2 VINA- (in), 3 VINA+ (in), 4 VSS (power), 8 VDD (power)
part B pins: 5 VINA+ (in), 6 VINA- (in), 7 OUTA (out)

## MCP6544-I/SL
designator U?
Push-Pull Output Sub-Microamp Comparator, 14-Pin SOIC, Industrial Temperature; FirstPublished: 29-Jan-2009; DatasheetVersion: revF, Sep-2007; PackageVersion: revBB, Aug-2009; PackageReference: SOIC-SL14; Publisher: Altium Limited; PackageDescription: 14-Lead Plastic Small Outline (SL) - Narrow, 3.90mm Body [SOIC]; Code_JEDEC: MS-012-AB; Code_IPC: SOIC127P600-14; ComponentLink1Description: Datasheet; ComponentLink1URL: http://ww1.microchip.com/downloads/en/DeviceDoc/21696f.pdf; ComponentLink2Description: Packaging Specification; ComponentLink2URL: http://www.microchip.com/stellent/groups/techpub_sg/documents/packagingspec/en012702.pdf; ComponentLink3Description: Microchip.com Home; ComponentLink3URL: http://www.microchip.com/
footprint SOIC14 (SOIC, 14-Leads, Body 8.6x3.9mm, Pitch 1.27mm, IPC Medium Density)
pins on every part: 4 VDD (power), 11 VSS (power)
part A pins: 1 OUTA (out), 2 VINA- (in), 3 VINA+ (in)
part B pins: 5 VINB+ (in), 6 VINB- (in), 7 OUTB (out)
part C pins: 8 OUTC (out), 9 VINC- (in), 10 VINC+ (in)
part D pins: 12 VIND+ (in), 13 VIND- (in), 14 OUTD (out)

## MIC2288BML
designator U?
1A 1.2MHz PWM Boost Converter
footprint MLF-8
pins: 1 OVP (power), 2 VIN (power), 3 EN (power), 4 AGND (power), 5 NC (power), 6 FB (power), 7 SW (power), 8 PGND (power), 9 EP (power)

## MIC5504-3.3YM5
designator U?, comment MIC5504
Single  300mA LDO
footprint SOT23-5 (SOT23, 5-Leads, Body 2.9x1.6mm, Pitch 0.95mm, Lead Span 2.8mm, IPC Medium Density)
pins: 1 VIN, 2 GND, 3 EN, 4 NC, 5 VOUT

## Micro_Switch
designator SW?  (value not drawn)
Switch; Published: 24-Mar-1999; LatestRevisionDate: 17-Jul-2002; LatestRevisionNote: Re-released for DXP Platform.; PackageReference: SPST-2; Publisher: Altium Limited
footprint Micro_Switch (Micro Switch with 2 leads used)
footprint Tact 34N-F
pins: 1, 2

## miniUSB_B
designator CON_?
USB On-The-Go (OTG) Mini-B Receptacle, Right Angle, SMT, 0.80mm (.031") Pitch, Solder Tabs with Back Cover, Recessed Type; PCB_Layout: Complies with Manufacturer's Recommendation.; Published: 21-Sep-2007; DatasheetVersion: revA, May-2004; PackageVersion: May-2004; PackageReference: 481900001; Publisher: Altium Limited; PackageDescription: USB Mini-B, Sinking Type, SM; 5 Position; Right Angle, Body 11.45 x 11.8 x 3.9 mm (LxWxH); ComponentLink1Description: Manufacturer Link; ComponentLink1URL: http://www.molex.com/; ComponentLink2Description: Datasheet; ComponentLink2URL: http://www.molex.com/cmc_upload/0/000/895/958/SD-48190-001RevA.pdf
footprint USB-54819-0572 (MOLEX 54819-0572 USB Mini-B OTG); pin to pad D+>DP D->DM MH1>S1 MH2>S2 MH3>S3 MH4>S4
pins: D+ "USB Data + [Green]", D- "USB Data - [White]", GND "Ground [Black]", ID "Not Connected (or joined to pin 5 via resistor)", MH1 Tab "Shell", MH2 Tab "Shell", MH3 Tab "Shell", MH4 Tab "Shell", VBUS "USB Vcc [Red]"

## MMcc1000
designator U?
Minimoduł do komunikacji radiowej
footprint MMcc1000
pins: 1 CHP, 2 DIO, 3 DCLK, 4 PCLK, 5 PDATA, 6 PALE, 7 GND, 8 ANT, 9 GND, 10 VCC, 11 RSSI, 12 GND

## MOC306x
designator U?
footprint DIP6 (DIP; 6 Leads; Row Spacing 7.62 mm; Pitch 2.54 mm)
pins: 1 A, 2 K, 3 nc, 4 MT1, 5 NC, 6 MT2

## MOD_CC2520
designator M?, comment CC2520
footprint modCC2520
pins: 1 VDD, 2 GPIO0, 3 GPIO1, 4 GPIO2, 5 GPIO3, 6 GPIO4, 7 CS, 8 GPIO5, 9 MISO, 10 MOSI, 11 VREG_EN, 12 SCLK, 13 GND, 14 RESET_N

## MPL3115A2
designator U?
footprint LGA8_3X5 (LCC, 8-Pins, Body 3,00x5,00mmx1,10mm, Pitch 1,25mm, IPC Medium Density)
pins: 1 VDD, 2 CAP, 3 GND, 4 VDDIO, 5 INT2, 6 INT1, 7 SDA, 8 SCL

## NE555
designator *
footprint DIP8
pins: 1 GND (power), 2 TR, 3 Q (oc), 4 R, 5 CV, 6 THR, 7 DIS, 8 VCC (power)

## PCA9306D
designator U?
footprint SOIC8
pins: 1 GND, 2 VREF1, 3 SCL1, 4 SDA1, 5 SDA2, 6 SCL2, 7 VREF2, 8 EN

## PCIE_x1
designator *
footprint PCIE-036-02-X-D-RA (SAMTEC PCI Express Conector)
pins: A1 PRSNT1#, A2 +12V, A3 +12V, A4 GND, A5 TCK, A6 TDI, A7 TDO, A8 TMS, A9 +3V3, A10 +3V3, A11 PERST#, A12 GND, A13 REFCLK+, A14 REFCLK-, A15 GND, A16 HSI0+, A17 HSI0-, A18 GND, B1 +12V, B2 +12V, B3 +12V, B4 GND, B5 SMCLK, B6 SMDAT, B7 GND, B8 +3V3, B9 TRST#, B10 +3V3_AUX, B11 WAKE#, B12 RES, B13 GND, B14 HSO0+, B15 HSO0-, B16 GND, B17 PRSNT2#, B18 GND

## PCIE_x4
designator *
footprint PCIE-064-02-X-D-TH (SAMTEC - PCIE-064-02-F-D-TH - GNIAZDO, PCI-E, 2X32)
pins: A1 PRSNT1#, A2 +12V, A3 +12V, A4 GND, A5 TCK, A6 TDI, A7 TDO, A8 TMS, A9 +3V3, A10 +3V3, A11 PERST#, A12 GND, A13 REFCLK+, A14 REFCLK-, A15 GND, A16 HSI0+, A17 HSI0-, A18 GND, A19 RES, A20 GND, A21 HSI1+, A22 HSI1-, A23 GND, A24 GND, A25 HSI2+, A26 HSI2-, A27 GND, A28 GND, A29 HSI3+, A30 HSI3-, A31 GND, A32 RES, B1 +12V, B2 +12V, B3 +12V, B4 GND, B5 SMCLK, B6 SMDAT, B7 GND, B8 +3V3, B9 TRST#, B10 +3V3_AUX, B11 WAKE#, B12 RES, B13 GND, B14 HSO0+, B15 HSO0-, B16 GND, B17 PRSNT2#, B18 GND, B19 HSO1+, B20 HSO1-, B21 GND, B22 GND, B23 HSO2+, B24 HSO2-, B25 GND, B26 GND, B27 HSO3+, B28 HSO3-, B29 GND, B30 RES, B31 PRSNT2#, B32 GND

## PDS1040L
designator D?
footprint POWERD5 (Diode INC. Diode)
pins: 1 A, 2 A, 3 K

## PFD2015
designator *
footprint PFD2015 (TRANSFORMER)
pins: 1, 2, 3, 4

## PMDPB38UNE
designator Q?
footprint DFN2020-6 (NXP SOT1118)
pins: 1 S1, 2 G1, 3 D2, 4 S2, 5 G2, 6 D1, 7 D1, 8 D2

## PMEG2010EH
designator D?, comment PMEG2010
1A very low Vf Schottky diode
footprint SOD123
pins: A (power), K (power)

## PMV33UPE
designator Q*
footprint SOT23-3
pins: 1 G, 2 S, 3 D

## PWB-1-CL
designator T?  (value not drawn)
Surface Mount Wideband RF Transformer
footprint PBW_xx (PBW_xx Transformers)
pins: 1, 2, 3, 4, 5, 6

## PWR2.5
designator J?
Low Voltage Power Supply Connector; Published: 17-Dec-2003; DatasheetDocument: 09-May-2002; Publisher: Altium Limited; ComponentLink1Description: Manufacturer Link; ComponentLink1URL: http://domino.kycon.com/internet/Products.html
footprint CON_DC (DC Power Jack, 2.5mm, KLD Series, PCB Mount)
pins: 1 (power), 2 (power), 3 (power)

## PWR_MOLEX_8981
designator CON_PWR?
footprint SDA-8981-4V (MOLEX HDD CONECTOR)
pins: 1 +12V, 2 GND, 3 GND, 4 +5V

## RectifierBridge
designator BR?, comment RecBridge
footprint AM106 (AM106 , RB157 Rectifier Bridge)
pins: 1 +, 2 AC, 3 -, 4 AC

## REL_RM50
designator REL?, comment RM50
Miniature Relay
footprint REL_RM50
part A pins: 1 (power), 2 (power)
part B pins: 3 (power), 4 (power), 5 (power)

## RES
designator R?, comment 100k
Resistior; Value: 100k
footprint R9x2.8 (Resistor, Axial; Body 10.5 x 3.3 mm (LxDia. max), Lead Dia. 0.7 mm (max))
footprint R6.3x2.5 (Resistor, Axial; Body 6.8 x 2.7 mm (LxDia. max), Lead Dia. 0.65 mm (max))
footprint 0805_RES ((2012 metric))
footprint 0603_RES
footprint 1206_RES (3216(metric))
footprint 2010_RES (Chip Resistor; Body 5 x 2.5 mm (LxW typ))
footprint 2512_RES (Chip Resistor; Body 6.4 x 3.2 mm (LxW typ))
footprint 0402_RES
footprint ERJB1 (Chip Resistor, 2-Leads, Body 2,50x4,95mm, IPC Medium Density)
pins: 1, 2
1 alternate drawing of the same symbol

## RES_VAR
designator POT?, comment POT
footprint Pot_3296 (Bochen 3296 Pin2 - Wiper)
footprint T93YB (Square Multi-Turn Cermet Trimmer)
pins: 1, 2, 3

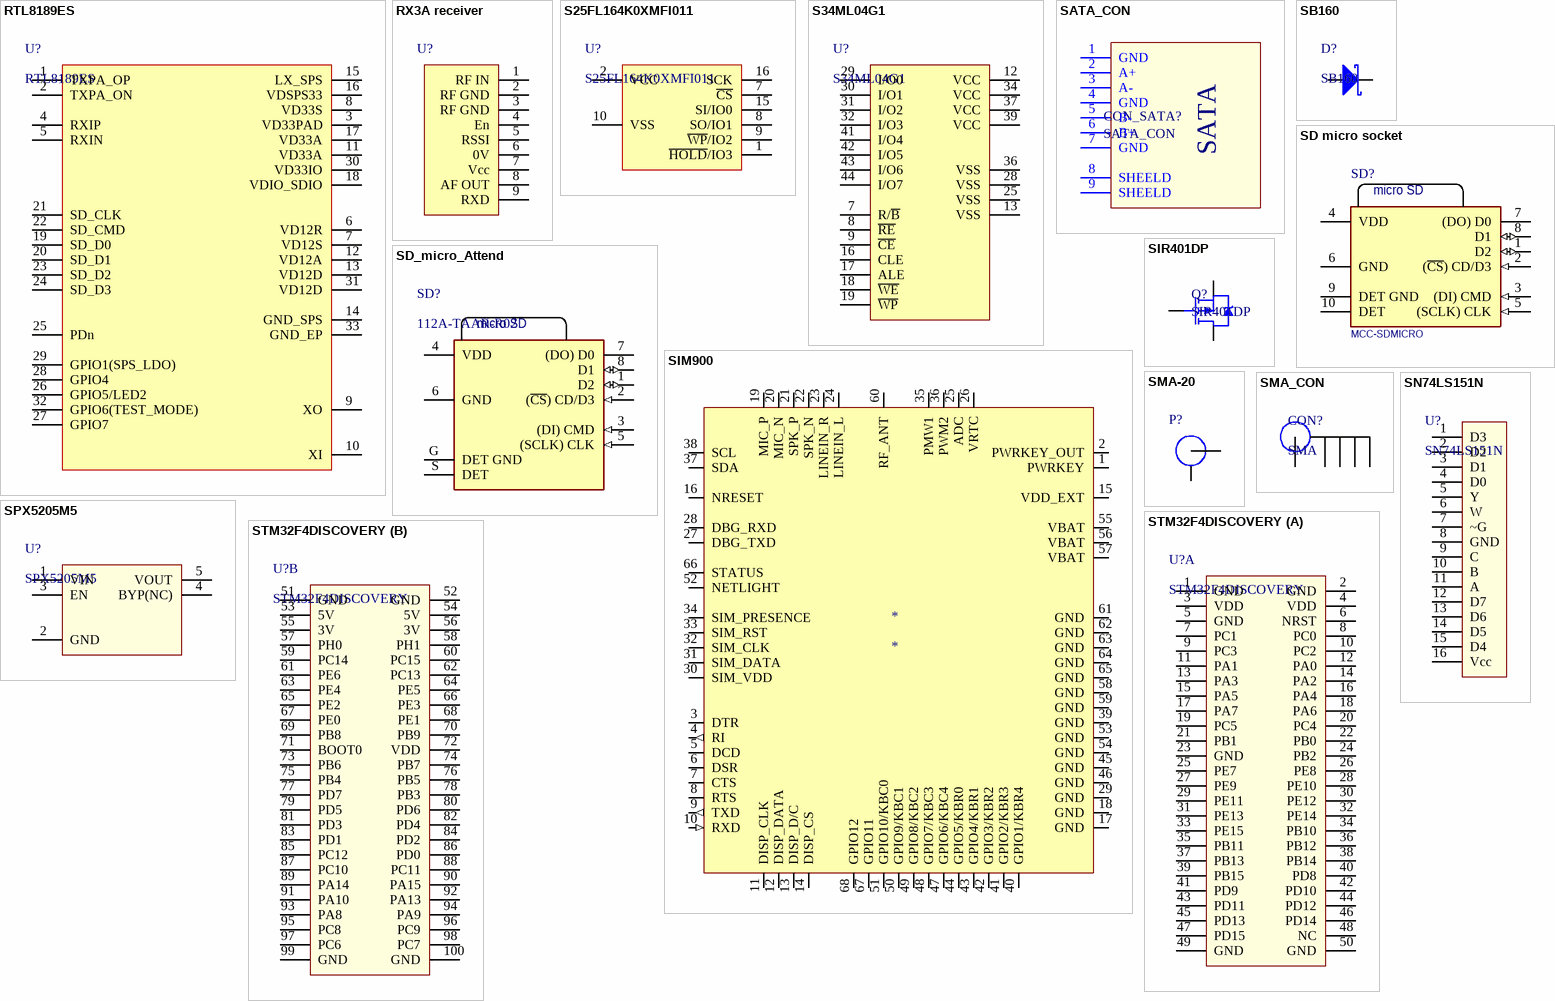
[diagram p18: symbols RTL8189ES to STM32F4DISCOVERY]

## RTL8189ES
designator U?
SINGLE-CHIP IEEE 802.11b/g/n 1T1R WLAN  With SDIO INTERFACE
pins: 1 TXPA_OP (power), 2 TXPA_ON (power), 3 VD33PAD (power), 4 RXIP (power), 5 RXIN (power), 6 VD12R (power), 7 VD12S (power), 8 VD33S (power), 9 XO (power), 10 XI (power), 11 VD33A (power), 12 VD12A (power), 13 VD12D (power), 14 GND_SPS (power), 15 LX_SPS (power), 16 VDSPS33 (power), 17 VD33A (power), 18 VDIO_SDIO (power), 19 SD_D0 (power), 20 SD_D1 (power), 21 SD_CLK (power), 22 SD_CMD (power), 23 SD_D2 (power), 24 SD_D3 (power), 25 PDn (power), 26 GPIO5/LED2 (power), 27 GPIO7 (power), 28 GPIO4 (power), 29 GPIO1(SPS_LDO) (power), 30 VD33IO (power), 31 VD12D (power), 32 GPIO6(TEST_MODE) (power), 33 GND_EP (power)

## RX3A receiver
designator U?  (value not drawn)
footprint RX3A
pins: 1 RF IN, 2 RF GND, 3 RF GND, 4 En, 5 RSSI, 6 0V, 7 Vcc, 8 AF OUT, 9 RXD

## S25FL164K0XMFI011
designator U?
CMOS 3.0-Volt Flash Non-Volatile Memory  Serial Peripheral Interface
footprint SOIC16_TI (SOIC, 16-Leads, Body 9,90x3,90mm, Pitch 1,27mm, IPC Medium Density)
pins: 1 ~{HOLD}/IO3 (power), 2 VCC (power), 7 ~{CS} (power), 8 SO/IO1 (power), 9 ~{WP}/IO2 (power), 10 VSS (power), 15 SI/IO0 (power), 16 SCK (power)

## S34ML04G1
designator U?
4 Gbit SLC NAND Flash Memory for Embedded
footprint TSOP48_FLASH (Flash footprint)
pins: 7 R/~{B}, 8 ~{RE}, 9 ~{CE}, 12 VCC, 13 VSS, 16 CLE, 17 ALE, 18 ~{WE}, 19 ~{WP}, 25 VSS, 28 VSS, 29 I/O0, 30 I/O1, 31 I/O2, 32 I/O3, 34 VCC, 36 VSS, 37 VCC, 39 VCC, 41 I/O4, 42 I/O5, 43 I/O6, 44 I/O7

## SATA_CON
designator CON_SATA?
footprint SATA_MOLEX (MOLEX - 67800-5001 - SATA CONNECTOR)
pins: 1 GND, 2 A+, 3 A-, 4 GND, 5 B-, 6 B+, 7 GND, 8 SHEELD, 9 SHEELD
text: SATA

## SB160
designator D?
footprint DO-41; pin to pad 1>A 2>K
pins: 1 A, 2 K

## SD micro socket
designator SD?, comment MCC-SDMICRO
podstawka microSD, TME (MCC-SDMICRO), Producent Attend: (symbol oryginalny 112A-TAAR-R01, Attend); Unit Price1: 5,00; Unit Price2: 5,00
footprint SD-503182-015 (MOLEX SD-503182-015 SD Card slot); pin to pad 1>T1 2>T2 3>T3 4>T4 5>T5 6>T6 7>T7 8>T8 9>CD_GND 10>CD
pins: 1 D2 (io), 2 (~{CS}) CD/D3 (in), 3 (DI) CMD (in), 4 VDD (power), 5 (SCLK) CLK (in), 6 GND (power), 7 (DO) D0 (hiz), 8 D1 (io), 9 DET GND, 10 DET, S1 10 hidden to GND, S2 11 hidden to GND, S3 12 hidden to GND, S4 13 hidden to GND, S5 hidden to GND
text: micro SD

## SD_micro_Attend
designator SD?, comment 112A-TAAR-R02
footprint 112A-TAAR-R02 (Attend 112A-TAAR-R02)
pins: 1 D2 (io), 2 (~{CS}) CD/D3 (in), 3 (DI) CMD (in), 4 VDD (power), 5 (SCLK) CLK (in), 6 GND (power), 7 (DO) D0 (hiz), 8 D1 (io), G DET GND, S DET
text: micro SD

## SIM900
designator *
footprint GSM SIM900 (GSM SIM900 98-pin SMT)
pins: 1 PWRKEY, 2 PWRKEY_OUT, 3 DTR, 4 RI (out), 5 DCD, 6 DSR, 7 CTS, 8 RTS, 9 TXD (out), 10 RXD (in), 11 DISP_CLK, 12 DISP_DATA, 13 DISP_D/C, 14 DISP_CS, 15 VDD_EXT, 16 NRESET, 17 GND, 18 GND, 19 MIC_P, 20 MIC_N, 21 SPK_P, 22 SPK_N, 23 LINEIN_R, 24 LINEIN_L, 25 ADC, 26 VRTC, 27 DBG_TXD, 28 DBG_RXD, 29 GND, 30 SIM_VDD, 31 SIM_DATA, 32 SIM_CLK, 33 SIM_RST, 34 SIM_PRESENCE, 35 PMW1, 36 PWM2, 37 SDA, 38 SCL, 39 GND, 40 GPIO1/KBR4, 41 GPIO2/KBR3, 42 GPIO3/KBR2, 43 GPIO4/KBR1, 44 GPIO5/KBR0, 45 GND, 46 GND, 47 GPIO6/KBC4, 48 GPIO7/KBC3, 49 GPIO8/KBC2, 50 GPIO9/KBC1, 51 GPIO10/KBC0, 52 NETLIGHT, 53 GND, 54 GND, 55 VBAT, 56 VBAT, 57 VBAT, 58 GND, 59 GND, 60 RF_ANT, 61 GND, 62 GND, 63 GND, 64 GND, 65 GND, 66 STATUS, 67 GPIO11, 68 GPIO12

## SIR401DP
designator Q?
footprint PG_TDSON_8
pins: 1 S, 2 S, 3 S, 4 G, 5 D

## SMA-20
designator P?  (value not drawn)
footprint SMA-20 (SMA-20 SMT contector)
pins: 1, 2

## SMA_CON
designator CON?, comment SMA
footprint CON_SMA (sma proste)
footprint CON_SMA_H (molex 73100-0114 horizontal SMA female)
pins: 0, 1, 2, 3, 4

## SN74LS151N
designator U?
Data selector
footprint DIP16
pins: 1 D3, 2 D2, 3 D1, 4 D0, 5 Y, 6 W, 7 ~G, 8 GND, 9 C, 10 B, 11 A, 12 D7, 13 D6, 14 D5, 15 D4, 16 Vcc

## SPX5205M5
designator U?
footprint SOT23-5 (SOT23, 5-Leads, Body 2.9x1.6mm, Pitch 0.95mm, Lead Span 2.8mm, IPC Medium Density)
pins: 1 VIN, 2 GND, 3 EN, 4 BYP(NC), 5 VOUT

## STM32F4DISCOVERY
designator U?
footprint STM32F4DISCOVERY (STM32F4DISCOVERY HEADER)
part A pins: 1 GND, 2 GND, 3 VDD, 4 VDD, 5 GND, 6 NRST, 7 PC1, 8 PC0, 9 PC3, 10 PC2, 11 PA1, 12 PA0, 13 PA3, 14 PA2, 15 PA5, 16 PA4, 17 PA7, 18 PA6, 19 PC5, 20 PC4, 21 PB1, 22 PB0, 23 GND, 24 PB2, 25 PE7, 26 PE8, 27 PE9, 28 PE10, 29 PE11, 30 PE12, 31 PE13, 32 PE14, 33 PE15, 34 PB10, 35 PB11, 36 PB12, 37 PB13, 38 PB14, 39 PB15, 40 PD8, 41 PD9, 42 PD10, 43 PD11, 44 PD12, 45 PD13, 46 PD14, 47 PD15, 48 NC, 49 GND, 50 GND
part B pins: 51 GND, 52 GND, 53 5V, 54 5V, 55 3V, 56 3V, 57 PH0, 58 PH1, 59 PC14, 60 PC15, 61 PE6, 62 PC13, 63 PE4, 64 PE5, 65 PE2, 66 PE3, 67 PE0, 68 PE1, 69 PB8, 70 PB9, 71 BOOT0, 72 VDD, 73 PB6, 74 PB7, 75 PB4, 76 PB5, 77 PD7, 78 PB3, 79 PD5, 80 PD6, 81 PD3, 82 PD4, 83 PD1, 84 PD2, 85 PC12, 86 PD0, 87 PC10, 88 PC11, 89 PA14, 90 PA15, 91 PA10, 92 PA13, 93 PA8, 94 PA9, 95 PC8, 96 PC9, 97 PC6, 98 PC7, 99 GND, 100 GND

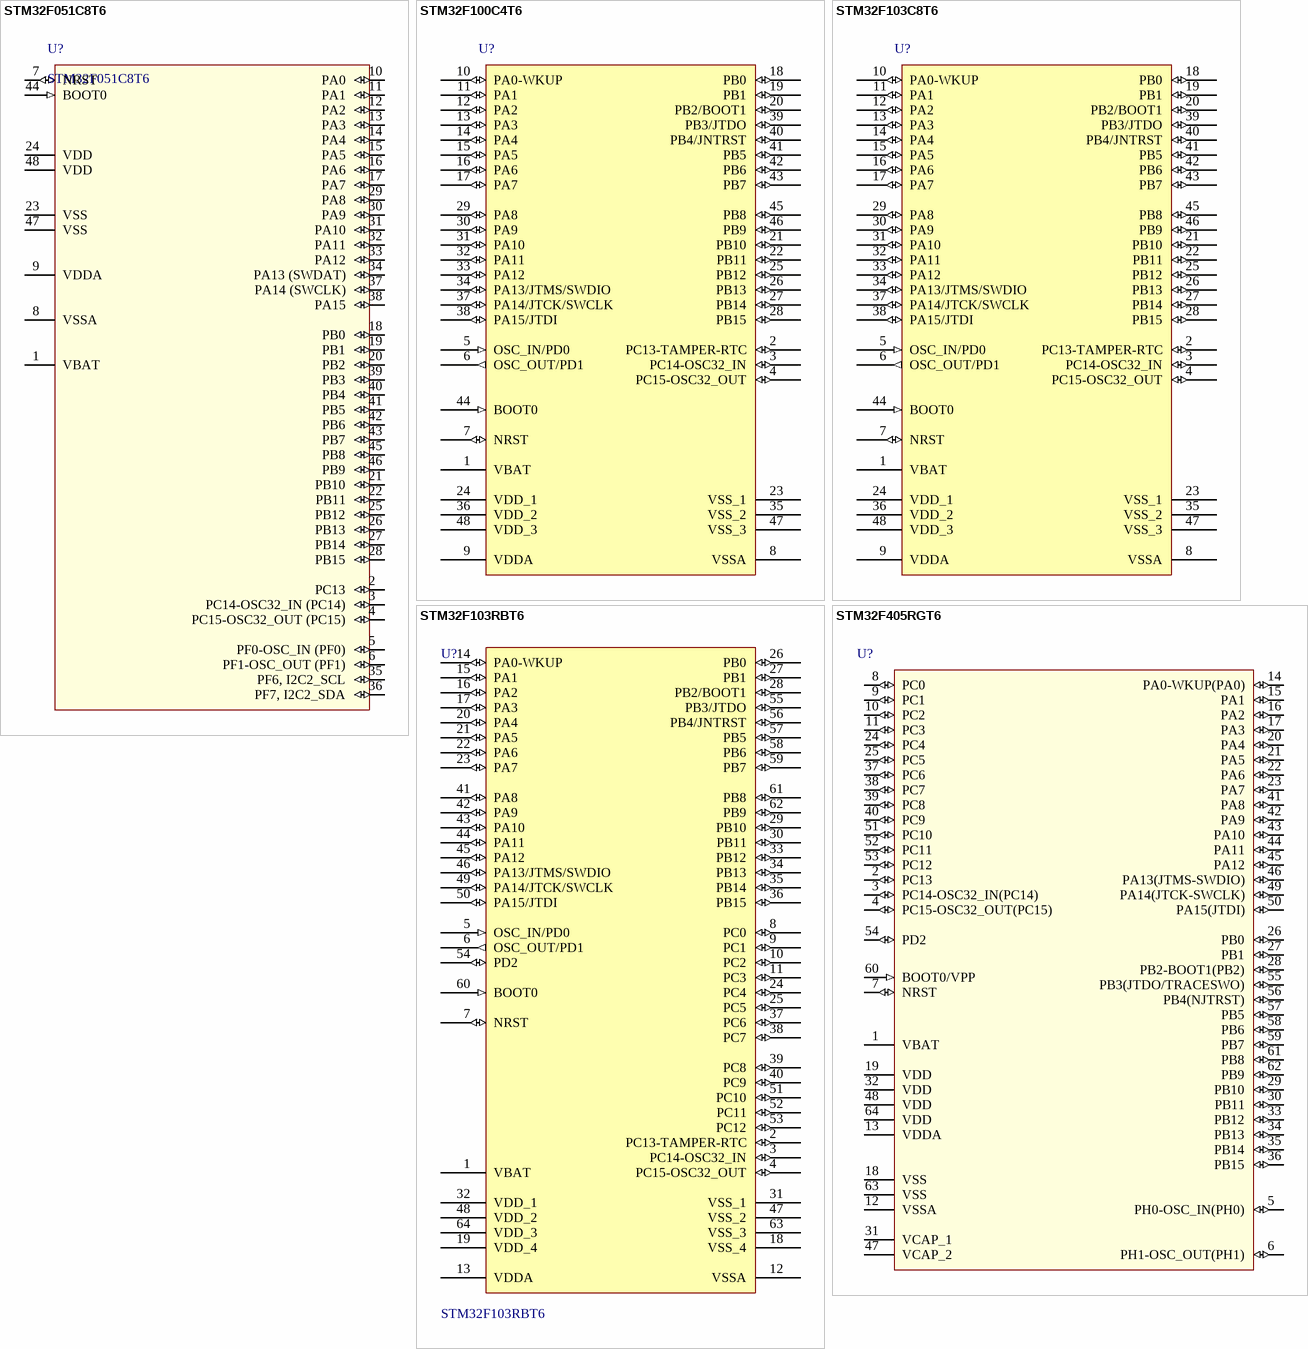
[diagram p19: symbols STM32F051C8T6 to STM32F405RGT6]

## STM32F051C8T6
designator U?
ARM Cortex-M0 32-bit RISC core (48 MHz max), 64kB Flash, 8 kB Internal RAM, 39 High Current I/Os, -40 to +85°C, 48-Pin LQFP, Tray; 16-bit timers (IC/OC/PWM): 8x16-bit; 32-bit timer (IC/OC/PWM): 1x32-bit; Other timer functions: 2 x WDG, RTC, 24-bit down counter; A/D Converter: 10x12-bit; Serial Interface: 1xSPI/I2S;1xSPI;2xI2C;2xUSART(IrDA, ISO 7816);CEC; Supply Current(Icc) (Lowest power mode) typ (µA): 1.65; Supply Current(Icc) (Run mode (per Mhz)) typ (µA): 250; DatasheetVersion: rev1, Apr-2012; PackageVersion: rev13, Apr-2011; PackageReference: LQFP48; PackageDescription: 48-Pin Low-Profile Quad Flat Pack, 7 x 7 mm Body, 0.5 mm Pitch (LQFP48); ComponentLink1Description: Manufacturer URL; ComponentLink1URL: http://www.st.com/; ComponentLink2Description: Datasheet; ComponentLink2URL: http://www.st.com/internet/com/TECHNICAL_RESOURCES/TECHNICAL_LITERATURE/DATASHEET/DM00039193.pdf; ComponentLink3Description: STM32F0 Web Page; ComponentLink3URL: http://www.st.com/internet/mcu/subclass/1588.jsp
footprint LQFP48 (Thin QFP, 48-Leads, Body 7x7mm, Pitch 0.5mm, IPC High Density)
pins: 1 VBAT (power), 2 PC13 (io), 3 PC14-OSC32_IN (PC14) (io), 4 PC15-OSC32_OUT (PC15) (io), 5 PF0-OSC_IN (PF0) (io), 6 PF1-OSC_OUT (PF1) (io), 7 NRST (io), 8 VSSA (power), 9 VDDA (power), 10 PA0 (io), 11 PA1 (io), 12 PA2 (io), 13 PA3 (io), 14 PA4 (io), 15 PA5 (io), 16 PA6 (io), 17 PA7 (io), 18 PB0 (io), 19 PB1 (io), 20 PB2 (io), 21 PB10 (io), 22 PB11 (io), 23 VSS (power), 24 VDD (power), 25 PB12 (io), 26 PB13 (io), 27 PB14 (io), 28 PB15 (io), 29 PA8 (io), 30 PA9 (io), 31 PA10 (io), 32 PA11 (io), 33 PA12 (io), 34 PA13 (SWDAT) (io), 35 PF6, I2C2_SCL (io), 36 PF7, I2C2_SDA (io), 37 PA14 (SWCLK) (io), 38 PA15 (io), 39 PB3 (io), 40 PB4 (io), 41 PB5 (io), 42 PB6 (io), 43 PB7 (io), 44 BOOT0 (in), 45 PB8 (io), 46 PB9 (io), 47 VSS (power), 48 VDD (power)

## STM32F100C4T6
designator U?
STM32 ARM-based 32-bit MCU with 32 Kbytes Flash, 48-pin LQFP, Industrial Temperature; Published: 30-May-2008; DatasheetVersion: rev6, Mar-2008; PackageVersion: Mar-2008; PackageReference: LQFP48; Publisher: Altium Limited; PackageDescription: 48-Pin Low-Profile Quad Flat Pack, 7 x 7 mm Body, 0.5 mm Pitch (LQFP48); ComponentLink1Description: Manufacturer Link; ComponentLink1URL: www.st.com/stm32; ComponentLink2Description: Datasheet; ComponentLink2URL: http://www.st.com/stonline/products/literature/ds/13586.pdf
footprint LQFP48 (Thin QFP, 48-Leads, Body 7x7mm, Pitch 0.5mm, IPC High Density)
pins: 1 VBAT (power), 2 PC13-TAMPER-RTC (io), 3 PC14-OSC32_IN (io), 4 PC15-OSC32_OUT (io), 5 OSC_IN/PD0 (in), 6 OSC_OUT/PD1 (out), 7 NRST (io), 8 VSSA (power), 9 VDDA (power), 10 PA0-WKUP (io), 11 PA1 (io), 12 PA2 (io), 13 PA3 (io), 14 PA4 (io), 15 PA5 (io), 16 PA6 (io), 17 PA7 (io), 18 PB0 (io), 19 PB1 (io), 20 PB2/BOOT1 (io), 21 PB10 (io), 22 PB11 (io), 23 VSS_1 (power), 24 VDD_1 (power), 25 PB12 (io), 26 PB13 (io), 27 PB14 (io), 28 PB15 (io), 29 PA8 (io), 30 PA9 (io), 31 PA10 (io), 32 PA11 (io), 33 PA12 (io), 34 PA13/JTMS/SWDIO (io), 35 VSS_2 (power), 36 VDD_2 (power), 37 PA14/JTCK/SWCLK (io), 38 PA15/JTDI (io), 39 PB3/JTDO (io), 40 PB4/JNTRST (io), 41 PB5 (io), 42 PB6 (io), 43 PB7 (io), 44 BOOT0 (in), 45 PB8 (io), 46 PB9 (io), 47 VSS_3 (power), 48 VDD_3 (power)

## STM32F103C8T6
designator U?
STM32 ARM-based 32-bit MCU with 64 Kbytes Flash, 48-pin LQFP, Industrial Temperature; Published: 30-May-2008; DatasheetVersion: rev6, Mar-2008; PackageVersion: Mar-2008; PackageReference: LQFP48; Publisher: Altium Limited; PackageDescription: 48-Pin Low-Profile Quad Flat Pack, 7 x 7 mm Body, 0.5 mm Pitch (LQFP48); ComponentLink1Description: Manufacturer Link; ComponentLink1URL: www.st.com/stm32; ComponentLink2Description: Datasheet; ComponentLink2URL: http://www.st.com/stonline/products/literature/ds/13587.pdf
footprint LQFP48 (Thin QFP, 48-Leads, Body 7x7mm, Pitch 0.5mm, IPC High Density)
pins: 1 VBAT (power), 2 PC13-TAMPER-RTC (io), 3 PC14-OSC32_IN (io), 4 PC15-OSC32_OUT (io), 5 OSC_IN/PD0 (in), 6 OSC_OUT/PD1 (out), 7 NRST (io), 8 VSSA (power), 9 VDDA (power), 10 PA0-WKUP (io), 11 PA1 (io), 12 PA2 (io), 13 PA3 (io), 14 PA4 (io), 15 PA5 (io), 16 PA6 (io), 17 PA7 (io), 18 PB0 (io), 19 PB1 (io), 20 PB2/BOOT1 (io), 21 PB10 (io), 22 PB11 (io), 23 VSS_1 (power), 24 VDD_1 (power), 25 PB12 (io), 26 PB13 (io), 27 PB14 (io), 28 PB15 (io), 29 PA8 (io), 30 PA9 (io), 31 PA10 (io), 32 PA11 (io), 33 PA12 (io), 34 PA13/JTMS/SWDIO (io), 35 VSS_2 (power), 36 VDD_2 (power), 37 PA14/JTCK/SWCLK (io), 38 PA15/JTDI (io), 39 PB3/JTDO (io), 40 PB4/JNTRST (io), 41 PB5 (io), 42 PB6 (io), 43 PB7 (io), 44 BOOT0 (in), 45 PB8 (io), 46 PB9 (io), 47 VSS_3 (power), 48 VDD_3 (power)

## STM32F103RBT6
designator U?
STM32 ARM-based 32-bit; Published: 30-May-2008; DatasheetVersion: rev6, Mar-2008; PackageVersion: Mar-2008; PackageReference: LQFP64; Publisher: Altium Limited; PackageDescription: 64-Pin Low-Profile Quad Flat Pack, 10 x 10 mm Body, 0.5 mm Pitch (LQFP64); ComponentLink1Description: Manufacturer Link; ComponentLink1URL: www.st.com/stm32; ComponentLink2Description: Datasheet; ComponentLink2URL: http://www.st.com/stonline/products/literature/ds/13587.pdf
footprint LQFP64 (Thin QFP, 64-Leads, Body 10x10mm, Pitch 0.5mm, IPC Medium Density)
pins: 1 VBAT (power), 2 PC13-TAMPER-RTC (io), 3 PC14-OSC32_IN (io), 4 PC15-OSC32_OUT (io), 5 OSC_IN/PD0 (in), 6 OSC_OUT/PD1 (out), 7 NRST (io), 8 PC0 (io), 9 PC1 (io), 10 PC2 (io), 11 PC3 (io), 12 VSSA (power), 13 VDDA (power), 14 PA0-WKUP (io), 15 PA1 (io), 16 PA2 (io), 17 PA3 (io), 18 VSS_4 (power), 19 VDD_4 (power), 20 PA4 (io), 21 PA5 (io), 22 PA6 (io), 23 PA7 (io), 24 PC4 (io), 25 PC5 (io), 26 PB0 (io), 27 PB1 (io), 28 PB2/BOOT1 (io), 29 PB10 (io), 30 PB11 (io), 31 VSS_1 (power), 32 VDD_1 (power), 33 PB12 (io), 34 PB13 (io), 35 PB14 (io), 36 PB15 (io), 37 PC6 (io), 38 PC7 (io), 39 PC8 (io), 40 PC9 (io), 41 PA8 (io), 42 PA9 (io), 43 PA10 (io), 44 PA11 (io), 45 PA12 (io), 46 PA13/JTMS/SWDIO (io), 47 VSS_2 (power), 48 VDD_2 (power), 49 PA14/JTCK/SWCLK (io), 50 PA15/JTDI (io), 51 PC10 (io), 52 PC11 (io), 53 PC12 (io), 54 PD2 (io), 55 PB3/JTDO (io), 56 PB4/JNTRST (io), 57 PB5 (io), 58 PB6 (io), 59 PB7 (io), 60 BOOT0 (in), 61 PB8 (io), 62 PB9 (io), 63 VSS_3 (power), 64 VDD_3 (power)

## STM32F405RGT6
designator U?
ARM Cortex-M4 32b MCU+FPU, 210DMIP, 1024 kB Flash, 192+4 kB RAM, 51 I/Os, 64-pin LQFP, -40 to +85°C, Tray; Internal RAM: 192kB; Operating Frequency (Processor Speed): 168MHz; A/D Converter: 16x12-bit; D/A Converter: 2x12-bit; 16-bit Timers (IC/OC/PWM): 12x16-bit(24/24/30); 32-bit Timer (IC/OC/PWM): 2x32-bit (8/8/8); Other Timer Functions: 2xWDG, RTC, 24-bit down counter; Serial Interface: 3xSPI/2xI2S/2xI2C/3xUSART(IrDa, ISO7816)/3xUART/1xUSB OTG FS/HS, 2xCAN/ SDIO; DatasheetVersion: rev2, Jan-2012; PackageVersion: 2012; PackageReference: TQFP64; PackageDescription: 64-Pin Low Profile Quad Flat Package, 10x10 mm Body, 0.5 mm Pitch; ComponentLink1Description: Manufacturer URL; ComponentLink1URL: http://www.st.com/; ComponentLink2Description: STM32F405/7 Datasheet; ComponentLink2URL: http://www.st.com/internet/com/TECHNICAL_RESOURCES/TECHNICAL_LITERATURE/DATASHEET/DM00037051.pdf; ComponentLink3Description: STM32F4 Web Page; ComponentLink3URL: http://www.st.com/internet/mcu/subclass/1521.jsp
footprint LQFP64 (Thin QFP, 64-Leads, Body 10x10mm, Pitch 0.5mm, IPC Medium Density)
pins: 1 VBAT (power), 2 PC13 (io), 3 PC14-OSC32_IN(PC14) (io), 4 PC15-OSC32_OUT(PC15) (io), 5 PH0-OSC_IN(PH0) (io), 6 PH1-OSC_OUT(PH1) (io), 7 NRST (io), 8 PC0 (io), 9 PC1 (io), 10 PC2 (io), 11 PC3 (io), 12 VSSA (power), 13 VDDA (power), 14 PA0-WKUP(PA0) (io), 15 PA1 (io), 16 PA2 (io), 17 PA3 (io), 18 VSS (power), 19 VDD (power), 20 PA4 (io), 21 PA5 (io), 22 PA6 (io), 23 PA7 (io), 24 PC4 (io), 25 PC5 (io), 26 PB0 (io), 27 PB1 (io), 28 PB2-BOOT1(PB2) (io), 29 PB10 (io), 30 PB11 (io), 31 VCAP_1 (power), 32 VDD (power), 33 PB12 (io), 34 PB13 (io), 35 PB14 (io), 36 PB15 (io), 37 PC6 (io), 38 PC7 (io), 39 PC8 (io), 40 PC9 (io), 41 PA8 (io), 42 PA9 (io), 43 PA10 (io), 44 PA11 (io), 45 PA12 (io), 46 PA13(JTMS-SWDIO) (io), 47 VCAP_2 (power), 48 VDD (power), 49 PA14(JTCK-SWCLK) (io), 50 PA15(JTDI) (io), 51 PC10 (io), 52 PC11 (io), 53 PC12 (io), 54 PD2 (io), 55 PB3(JTDO/TRACESWO) (io), 56 PB4(NJTRST) (io), 57 PB5 (io), 58 PB6 (io), 59 PB7 (io), 60 BOOT0/VPP (in), 61 PB8 (io), 62 PB9 (io), 63 VSS (power), 64 VDD (power)

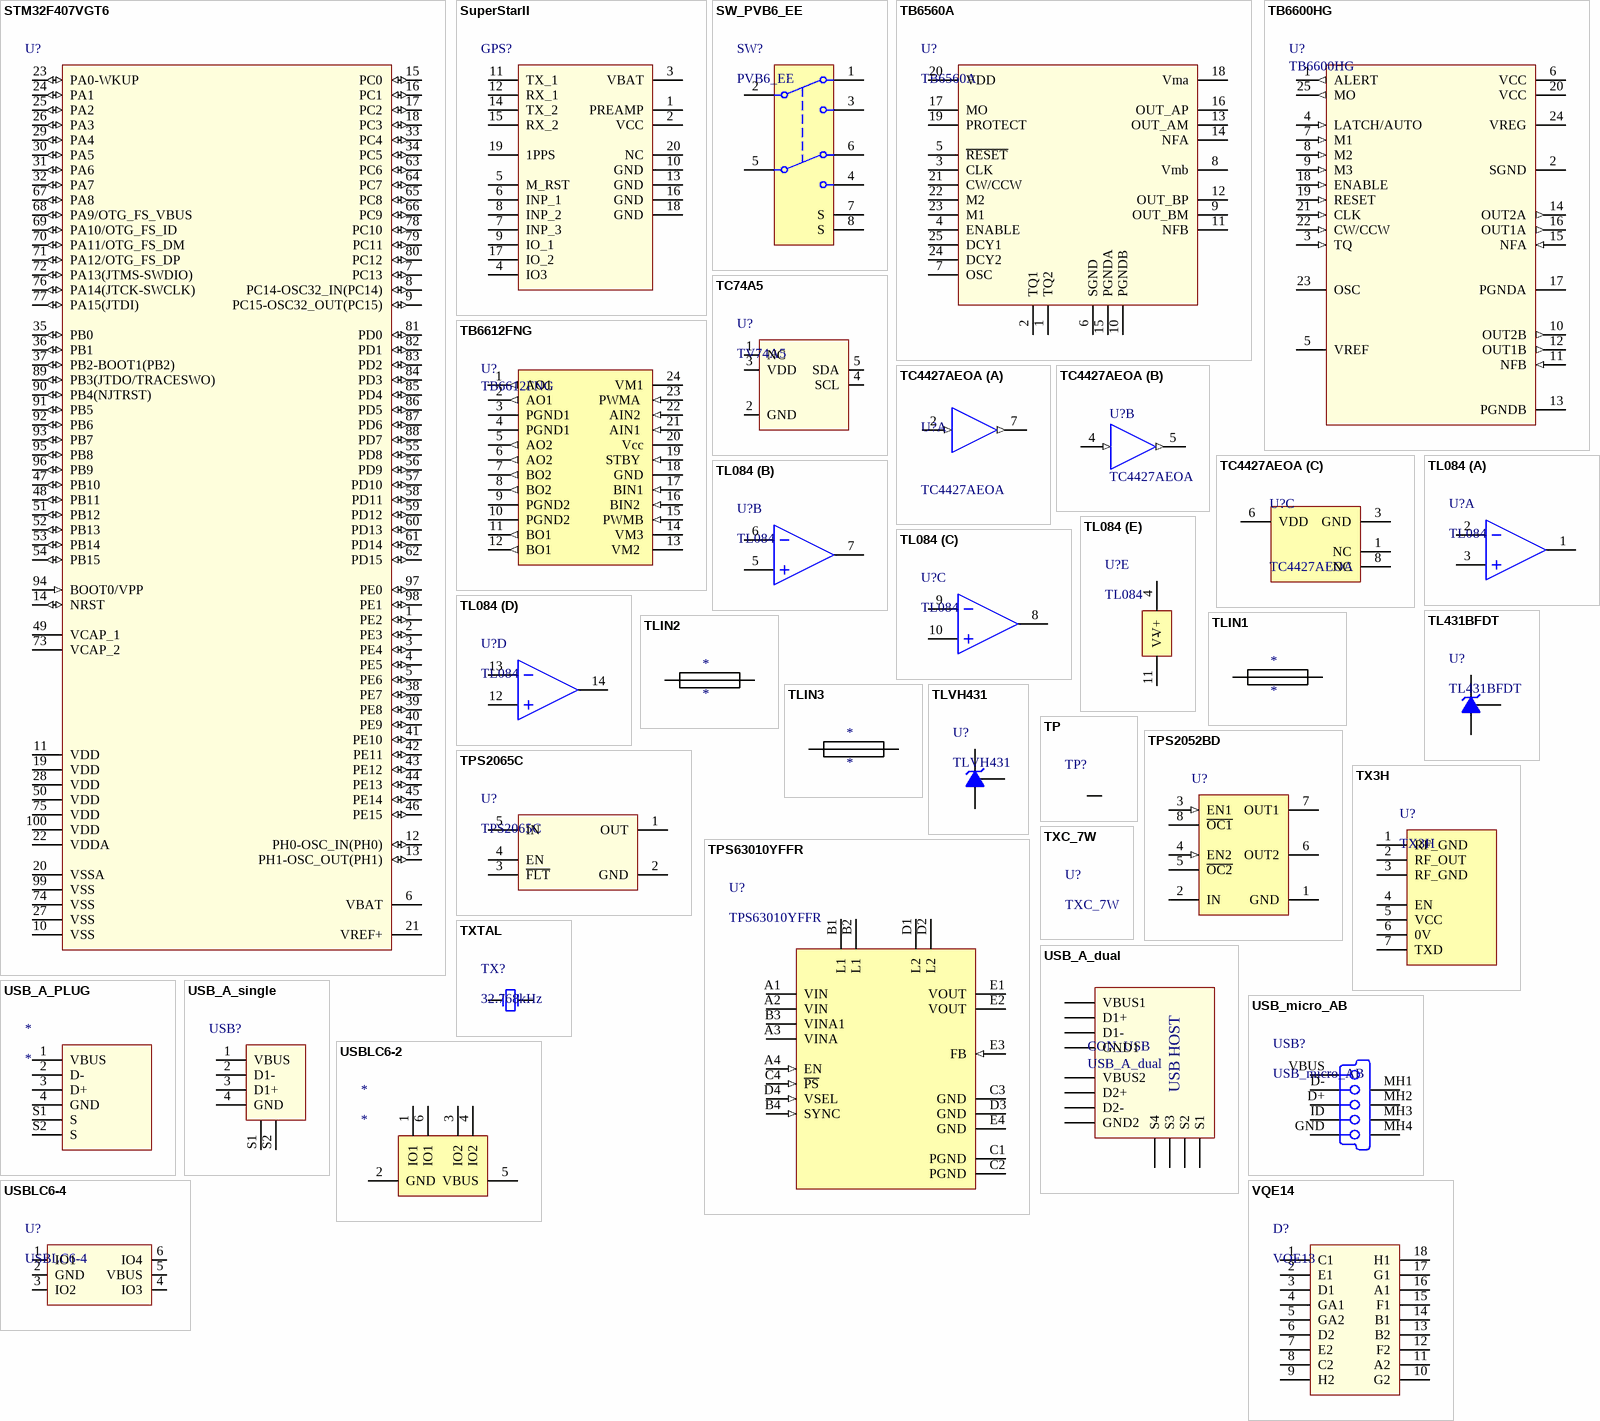
[diagram p20: symbols STM32F407VGT6 to VQE14]